# Altium integrated library Actel IGLOO nano.IntLib: 240 symbols (part 10 of 14)
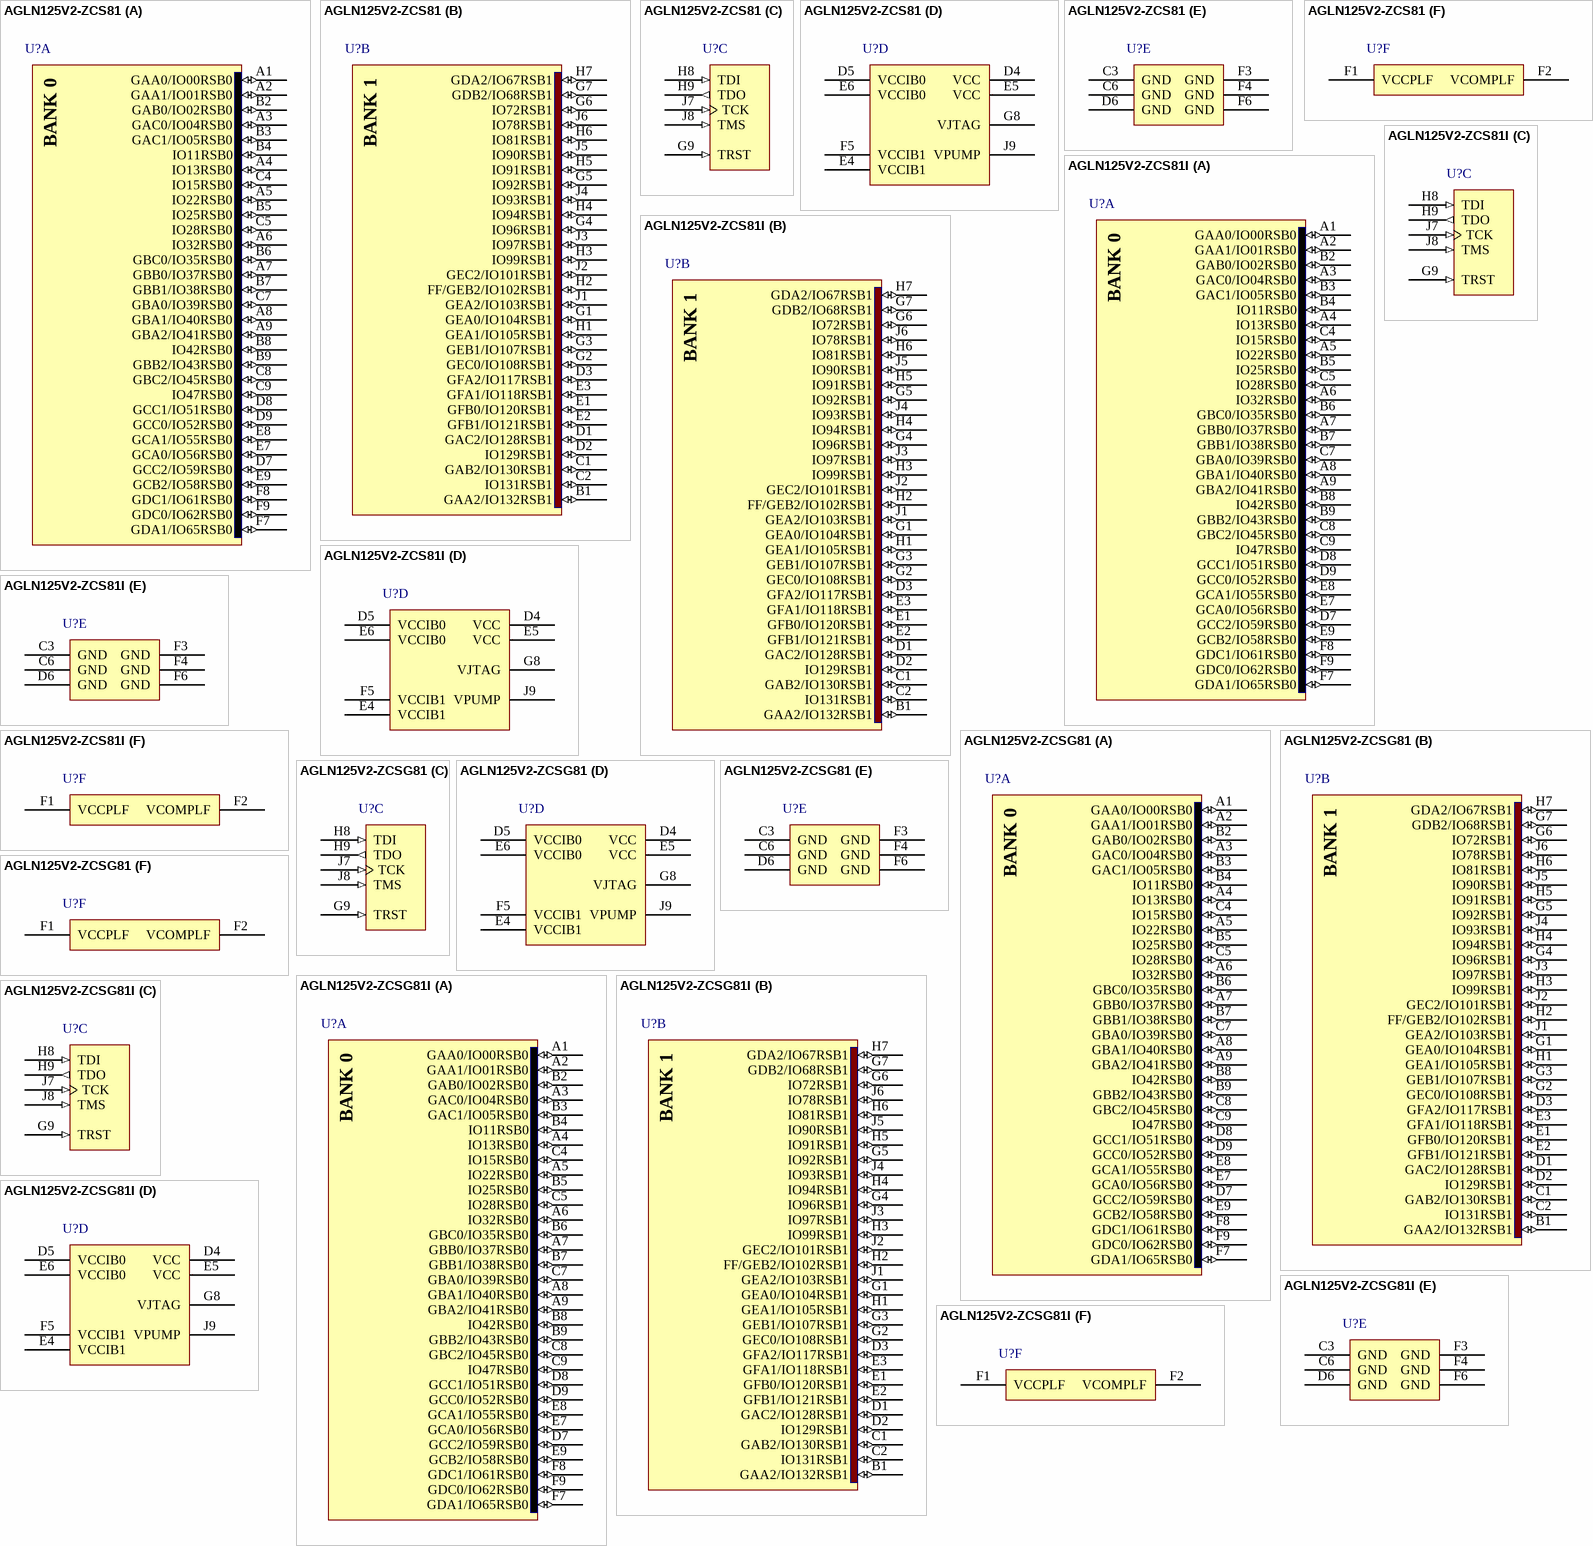
[diagram p72: symbols AGLN125V2-ZCS81 to AGLN125V2-ZCSG81I]

## AGLN125V2-ZCS81I
designator U?
IGLOO nano Low-Power Flash 1.2 to 1.5V FPGA with Flash*Freeze, 60 User IOs, 125K System Gates, 1Kbit Flash ROM, Z feature grade, 81-Pin CSP, Industrial Grade; Published: 26-Feb-2010; DatasheetVersion: v0.8, Jan-2010; PackageVersion: ver11.2, Nov-2009; PackageReference: CS81; Publisher: Altium Limited; PackageDescription: 81-Ball Chip Scale Ball Grid Array 0.5 mm Pitch (CS81); Code_JEDEC: MO-195-AB; ComponentLink1Description: IGLOO nano Datasheet; ComponentLink1URL: http://www.actel.com/documents/IGLOO_nano_DS.pdf; ComponentLink2Description: Package Mechanical Drawings; ComponentLink2URL: http://www.actel.com/documents/PckgMechDrwngs.pdf; ComponentLink3Description: IGLOO nano Documents; ComponentLink3URL: http://www.actel.com/products/igloonano/docs.aspx; ComponentLink4Description: Actel.com Home; ComponentLink4URL: http://www.actel.com/
footprint CS81 (BGA, 81-Leads, Body 5x5mm, Pitch 0.5mm)
signal-integrity model AGLN125-CS81 (IGLOO nano)
part A pins: A1 GAA0/IO00RSB0 (io), A2 GAA1/IO01RSB0 (io), A3 GAC0/IO04RSB0 (io), A4 IO13RSB0 (io), A5 IO22RSB0 (io), A6 IO32RSB0 (io), A7 GBB0/IO37RSB0 (io), A8 GBA1/IO40RSB0 (io), A9 GBA2/IO41RSB0 (io), B2 GAB0/IO02RSB0 (io), B3 GAC1/IO05RSB0 (io), B4 IO11RSB0 (io), B5 IO25RSB0 (io), B6 GBC0/IO35RSB0 (io), B7 GBB1/IO38RSB0 (io), B8 IO42RSB0 (io), B9 GBB2/IO43RSB0 (io), C4 IO15RSB0 (io), C5 IO28RSB0 (io), C7 GBA0/IO39RSB0 (io), C8 GBC2/IO45RSB0 (io), C9 IO47RSB0 (io), D7 GCC2/IO59RSB0 (io), D8 GCC1/IO51RSB0 (io), D9 GCC0/IO52RSB0 (io), E7 GCA0/IO56RSB0 (io), E8 GCA1/IO55RSB0 (io), E9 GCB2/IO58RSB0 (io), F7 GDA1/IO65RSB0 (io), F8 GDC1/IO61RSB0 (io), F9 GDC0/IO62RSB0 (io)
part B pins: B1 GAA2/IO132RSB1 (io), C1 GAB2/IO130RSB1 (io), C2 IO131RSB1 (io), D1 GAC2/IO128RSB1 (io), D2 IO129RSB1 (io), D3 GFA2/IO117RSB1 (io), E1 GFB0/IO120RSB1 (io), E2 GFB1/IO121RSB1 (io), E3 GFA1/IO118RSB1 (io), G1 GEA0/IO104RSB1 (io), G2 GEC0/IO108RSB1 (io), G3 GEB1/IO107RSB1 (io), G4 IO96RSB1 (io), G5 IO92RSB1 (io), G6 IO72RSB1 (io), G7 GDB2/IO68RSB1 (io), H1 GEA1/IO105RSB1 (io), H2 FF/GEB2/IO102RSB1 (io), H3 IO99RSB1 (io), H4 IO94RSB1 (io), H5 IO91RSB1 (io), H6 IO81RSB1 (io), H7 GDA2/IO67RSB1 (io), J1 GEA2/IO103RSB1 (io), J2 GEC2/IO101RSB1 (io), J3 IO97RSB1 (io), J4 IO93RSB1 (io), J5 IO90RSB1 (io), J6 IO78RSB1 (io)
part C pins: G9 TRST (in), H8 TDI (in), H9 TDO (out), J7 TCK (in), J8 TMS (in)
part D pins: D4 VCC (power), D5 VCCIB0 (power), E4 VCCIB1 (power), E5 VCC (power), E6 VCCIB0 (power), F5 VCCIB1 (power), G8 VJTAG (power), J9 VPUMP (power)
part E pins: C3 GND (power), C6 GND (power), D6 GND (power), F3 GND (power), F4 GND (power), F6 GND (power)
part F pins: F1 VCCPLF (power), F2 VCOMPLF (power)
part A text: BANK 0
part B text: BANK 1

## AGLN125V2-ZCSG81
designator U?
IGLOO nano Low-Power Flash 1.2 to 1.5V FPGA with Flash*Freeze, 60 User IOs, 125K System Gates, 1Kbit Flash ROM, Z feature grade, 81-Pin CSP, Commercial Grade, Pb-Free; Published: 26-Feb-2010; DatasheetVersion: v0.8, Jan-2010; PackageVersion: ver11.2, Nov-2009; PackageReference: CS81; Publisher: Altium Limited; PackageDescription: 81-Ball Chip Scale Ball Grid Array 0.5 mm Pitch (CS81); Code_JEDEC: MO-195-AB; ComponentLink1Description: IGLOO nano Datasheet; ComponentLink1URL: http://www.actel.com/documents/IGLOO_nano_DS.pdf; ComponentLink2Description: Package Mechanical Drawings; ComponentLink2URL: http://www.actel.com/documents/PckgMechDrwngs.pdf; ComponentLink3Description: IGLOO nano Documents; ComponentLink3URL: http://www.actel.com/products/igloonano/docs.aspx; ComponentLink4Description: Actel.com Home; ComponentLink4URL: http://www.actel.com/
footprint CS81 (BGA, 81-Leads, Body 5x5mm, Pitch 0.5mm)
signal-integrity model AGLN125-CS81 (IGLOO nano)
part A pins: A1 GAA0/IO00RSB0 (io), A2 GAA1/IO01RSB0 (io), A3 GAC0/IO04RSB0 (io), A4 IO13RSB0 (io), A5 IO22RSB0 (io), A6 IO32RSB0 (io), A7 GBB0/IO37RSB0 (io), A8 GBA1/IO40RSB0 (io), A9 GBA2/IO41RSB0 (io), B2 GAB0/IO02RSB0 (io), B3 GAC1/IO05RSB0 (io), B4 IO11RSB0 (io), B5 IO25RSB0 (io), B6 GBC0/IO35RSB0 (io), B7 GBB1/IO38RSB0 (io), B8 IO42RSB0 (io), B9 GBB2/IO43RSB0 (io), C4 IO15RSB0 (io), C5 IO28RSB0 (io), C7 GBA0/IO39RSB0 (io), C8 GBC2/IO45RSB0 (io), C9 IO47RSB0 (io), D7 GCC2/IO59RSB0 (io), D8 GCC1/IO51RSB0 (io), D9 GCC0/IO52RSB0 (io), E7 GCA0/IO56RSB0 (io), E8 GCA1/IO55RSB0 (io), E9 GCB2/IO58RSB0 (io), F7 GDA1/IO65RSB0 (io), F8 GDC1/IO61RSB0 (io), F9 GDC0/IO62RSB0 (io)
part B pins: B1 GAA2/IO132RSB1 (io), C1 GAB2/IO130RSB1 (io), C2 IO131RSB1 (io), D1 GAC2/IO128RSB1 (io), D2 IO129RSB1 (io), D3 GFA2/IO117RSB1 (io), E1 GFB0/IO120RSB1 (io), E2 GFB1/IO121RSB1 (io), E3 GFA1/IO118RSB1 (io), G1 GEA0/IO104RSB1 (io), G2 GEC0/IO108RSB1 (io), G3 GEB1/IO107RSB1 (io), G4 IO96RSB1 (io), G5 IO92RSB1 (io), G6 IO72RSB1 (io), G7 GDB2/IO68RSB1 (io), H1 GEA1/IO105RSB1 (io), H2 FF/GEB2/IO102RSB1 (io), H3 IO99RSB1 (io), H4 IO94RSB1 (io), H5 IO91RSB1 (io), H6 IO81RSB1 (io), H7 GDA2/IO67RSB1 (io), J1 GEA2/IO103RSB1 (io), J2 GEC2/IO101RSB1 (io), J3 IO97RSB1 (io), J4 IO93RSB1 (io), J5 IO90RSB1 (io), J6 IO78RSB1 (io)
part C pins: G9 TRST (in), H8 TDI (in), H9 TDO (out), J7 TCK (in), J8 TMS (in)
part D pins: D4 VCC (power), D5 VCCIB0 (power), E4 VCCIB1 (power), E5 VCC (power), E6 VCCIB0 (power), F5 VCCIB1 (power), G8 VJTAG (power), J9 VPUMP (power)
part E pins: C3 GND (power), C6 GND (power), D6 GND (power), F3 GND (power), F4 GND (power), F6 GND (power)
part F pins: F1 VCCPLF (power), F2 VCOMPLF (power)
part A text: BANK 0
part B text: BANK 1

## AGLN125V2-ZCSG81I
designator U?
IGLOO nano Low-Power Flash 1.2 to 1.5V FPGA with Flash*Freeze, 60 User IOs, 125K System Gates, 1Kbit Flash ROM, Z feature grade, 81-Pin CSP, Industrial Grade, Pb-Free; Published: 26-Feb-2010; DatasheetVersion: v0.8, Jan-2010; PackageVersion: ver11.2, Nov-2009; PackageReference: CS81; Publisher: Altium Limited; PackageDescription: 81-Ball Chip Scale Ball Grid Array 0.5 mm Pitch (CS81); Code_JEDEC: MO-195-AB; ComponentLink1Description: IGLOO nano Datasheet; ComponentLink1URL: http://www.actel.com/documents/IGLOO_nano_DS.pdf; ComponentLink2Description: Package Mechanical Drawings; ComponentLink2URL: http://www.actel.com/documents/PckgMechDrwngs.pdf; ComponentLink3Description: IGLOO nano Documents; ComponentLink3URL: http://www.actel.com/products/igloonano/docs.aspx; ComponentLink4Description: Actel.com Home; ComponentLink4URL: http://www.actel.com/
footprint CS81 (BGA, 81-Leads, Body 5x5mm, Pitch 0.5mm)
signal-integrity model AGLN125-CS81 (IGLOO nano)
part A pins: A1 GAA0/IO00RSB0 (io), A2 GAA1/IO01RSB0 (io), A3 GAC0/IO04RSB0 (io), A4 IO13RSB0 (io), A5 IO22RSB0 (io), A6 IO32RSB0 (io), A7 GBB0/IO37RSB0 (io), A8 GBA1/IO40RSB0 (io), A9 GBA2/IO41RSB0 (io), B2 GAB0/IO02RSB0 (io), B3 GAC1/IO05RSB0 (io), B4 IO11RSB0 (io), B5 IO25RSB0 (io), B6 GBC0/IO35RSB0 (io), B7 GBB1/IO38RSB0 (io), B8 IO42RSB0 (io), B9 GBB2/IO43RSB0 (io), C4 IO15RSB0 (io), C5 IO28RSB0 (io), C7 GBA0/IO39RSB0 (io), C8 GBC2/IO45RSB0 (io), C9 IO47RSB0 (io), D7 GCC2/IO59RSB0 (io), D8 GCC1/IO51RSB0 (io), D9 GCC0/IO52RSB0 (io), E7 GCA0/IO56RSB0 (io), E8 GCA1/IO55RSB0 (io), E9 GCB2/IO58RSB0 (io), F7 GDA1/IO65RSB0 (io), F8 GDC1/IO61RSB0 (io), F9 GDC0/IO62RSB0 (io)
part B pins: B1 GAA2/IO132RSB1 (io), C1 GAB2/IO130RSB1 (io), C2 IO131RSB1 (io), D1 GAC2/IO128RSB1 (io), D2 IO129RSB1 (io), D3 GFA2/IO117RSB1 (io), E1 GFB0/IO120RSB1 (io), E2 GFB1/IO121RSB1 (io), E3 GFA1/IO118RSB1 (io), G1 GEA0/IO104RSB1 (io), G2 GEC0/IO108RSB1 (io), G3 GEB1/IO107RSB1 (io), G4 IO96RSB1 (io), G5 IO92RSB1 (io), G6 IO72RSB1 (io), G7 GDB2/IO68RSB1 (io), H1 GEA1/IO105RSB1 (io), H2 FF/GEB2/IO102RSB1 (io), H3 IO99RSB1 (io), H4 IO94RSB1 (io), H5 IO91RSB1 (io), H6 IO81RSB1 (io), H7 GDA2/IO67RSB1 (io), J1 GEA2/IO103RSB1 (io), J2 GEC2/IO101RSB1 (io), J3 IO97RSB1 (io), J4 IO93RSB1 (io), J5 IO90RSB1 (io), J6 IO78RSB1 (io)
part C pins: G9 TRST (in), H8 TDI (in), H9 TDO (out), J7 TCK (in), J8 TMS (in)
part D pins: D4 VCC (power), D5 VCCIB0 (power), E4 VCCIB1 (power), E5 VCC (power), E6 VCCIB0 (power), F5 VCCIB1 (power), G8 VJTAG (power), J9 VPUMP (power)
part E pins: C3 GND (power), C6 GND (power), D6 GND (power), F3 GND (power), F4 GND (power), F6 GND (power)
part F pins: F1 VCCPLF (power), F2 VCOMPLF (power)
part A text: BANK 0
part B text: BANK 1

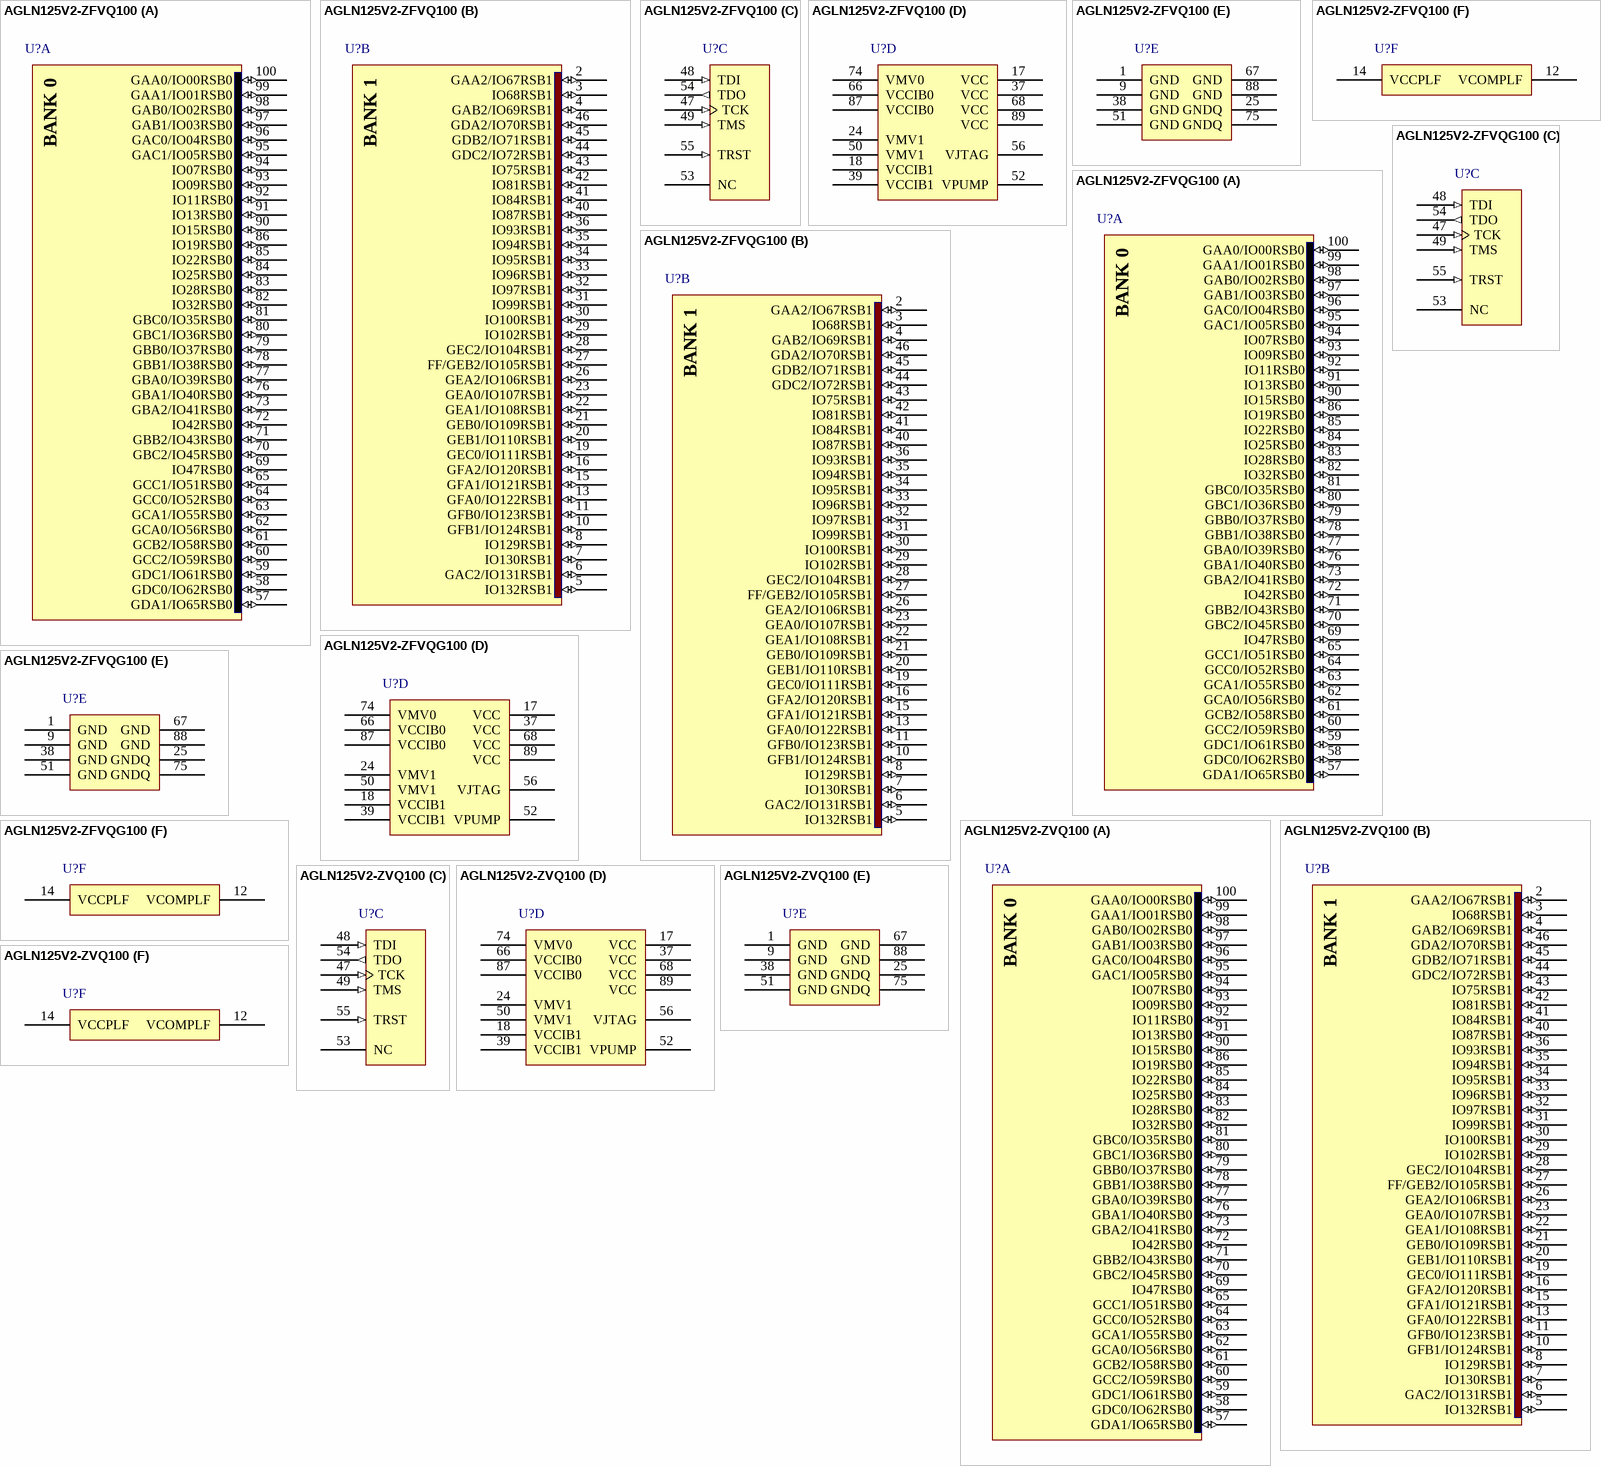
[diagram p42: symbols AGLN125V2-ZFVQ100 to AGLN125V2-ZVQ100]

## AGLN125V2-ZFVQ100
designator U?
IGLOO nano Low-Power Flash 1.2 to 1.5V FPGA with Flash*Freeze, 71 User IOs, 125K System Gates, 1Kbit Flash ROM, Z feature grade, 100-Pin TQFP, Commercial Grade; ComponentAvailability: F speed grade removed in ver0.7, Apr-2009 datasheet.; Published: 29-May-2009; DatasheetVersion: v0.6, Feb-2009; PackageVersion: ver11.2, Nov-2009; PackageReference: VQ100; Publisher: Altium Limited; PackageDescription: 100-Pin Plastic Quad Flat Pack (VQ100); Code_JEDEC: MS-026-AED; ComponentLink1Description: IGLOO nano Datasheet; ComponentLink1URL: http://www.actel.com/documents/IGLOO_nano_DS.pdf; ComponentLink2Description: Package Mechanical Drawings; ComponentLink2URL: http://www.actel.com/documents/PckgMechDrwngs.pdf; ComponentLink3Description: IGLOO nano Documents; ComponentLink3URL: http://www.actel.com/products/igloonano/docs.aspx; ComponentLink4Description: Actel.com Home; ComponentLink4URL: http://www.actel.com/
footprint VQ100_N (Thin QFP, 100-Leads, Body 14x14mm, Pitch 0.5mm, IPC Medium Density)
footprint VQ100_L (Thin QFP, 100-Leads, Body 14x14mm, Pitch 0.5mm, IPC High Density)
footprint VQ100_M (Thin QFP, 100-Leads, Body 14x14mm, Pitch 0.5mm, IPC Low Density)
signal-integrity model AGLN125-VQ100 (IGLOO nano)
part A pins: 57 GDA1/IO65RSB0 (io), 58 GDC0/IO62RSB0 (io), 59 GDC1/IO61RSB0 (io), 60 GCC2/IO59RSB0 (io), 61 GCB2/IO58RSB0 (io), 62 GCA0/IO56RSB0 (io), 63 GCA1/IO55RSB0 (io), 64 GCC0/IO52RSB0 (io), 65 GCC1/IO51RSB0 (io), 69 IO47RSB0 (io), 70 GBC2/IO45RSB0 (io), 71 GBB2/IO43RSB0 (io), 72 IO42RSB0 (io), 73 GBA2/IO41RSB0 (io), 76 GBA1/IO40RSB0 (io), 77 GBA0/IO39RSB0 (io), 78 GBB1/IO38RSB0 (io), 79 GBB0/IO37RSB0 (io), 80 GBC1/IO36RSB0 (io), 81 GBC0/IO35RSB0 (io), 82 IO32RSB0 (io), 83 IO28RSB0 (io), 84 IO25RSB0 (io), 85 IO22RSB0 (io), 86 IO19RSB0 (io), 90 IO15RSB0 (io), 91 IO13RSB0 (io), 92 IO11RSB0 (io), 93 IO09RSB0 (io), 94 IO07RSB0 (io), 95 GAC1/IO05RSB0 (io), 96 GAC0/IO04RSB0 (io), 97 GAB1/IO03RSB0 (io), 98 GAB0/IO02RSB0 (io), 99 GAA1/IO01RSB0 (io), 100 GAA0/IO00RSB0 (io)
part B pins: 2 GAA2/IO67RSB1 (io), 3 IO68RSB1 (io), 4 GAB2/IO69RSB1 (io), 5 IO132RSB1 (io), 6 GAC2/IO131RSB1 (io), 7 IO130RSB1 (io), 8 IO129RSB1 (io), 10 GFB1/IO124RSB1 (io), 11 GFB0/IO123RSB1 (io), 13 GFA0/IO122RSB1 (io), 15 GFA1/IO121RSB1 (io), 16 GFA2/IO120RSB1 (io), 19 GEC0/IO111RSB1 (io), 20 GEB1/IO110RSB1 (io), 21 GEB0/IO109RSB1 (io), 22 GEA1/IO108RSB1 (io), 23 GEA0/IO107RSB1 (io), 26 GEA2/IO106RSB1 (io), 27 FF/GEB2/IO105RSB1 (io), 28 GEC2/IO104RSB1 (io), 29 IO102RSB1 (io), 30 IO100RSB1 (io), 31 IO99RSB1 (io), 32 IO97RSB1 (io), 33 IO96RSB1 (io), 34 IO95RSB1 (io), 35 IO94RSB1 (io), 36 IO93RSB1 (io), 40 IO87RSB1 (io), 41 IO84RSB1 (io), 42 IO81RSB1 (io), 43 IO75RSB1 (io), 44 GDC2/IO72RSB1 (io), 45 GDB2/IO71RSB1 (io), 46 GDA2/IO70RSB1 (io)
part C pins: 47 TCK (in), 48 TDI (in), 49 TMS (in), 53 NC, 54 TDO (out), 55 TRST (in)
part D pins: 17 VCC (power), 18 VCCIB1 (power), 24 VMV1 (power), 37 VCC (power), 39 VCCIB1 (power), 50 VMV1 (power), 52 VPUMP (power), 56 VJTAG (power), 66 VCCIB0 (power), 68 VCC (power), 74 VMV0 (power), 87 VCCIB0 (power), 89 VCC (power)
part E pins: 1 GND (power), 9 GND (power), 25 GNDQ (power), 38 GND (power), 51 GND (power), 67 GND (power), 75 GNDQ (power), 88 GND (power)
part F pins: 12 VCOMPLF (power), 14 VCCPLF (power)
part A text: BANK 0
part B text: BANK 1

## AGLN125V2-ZFVQG100
designator U?
IGLOO nano Low-Power Flash 1.2 to 1.5V FPGA with Flash*Freeze, 71 User IOs, 125K System Gates, 1Kbit Flash ROM, Z feature grade, 100-Pin TQFP, Commercial Grade, Pb-Free; ComponentAvailability: F speed grade removed in ver0.7, Apr-2009 datasheet.; Published: 29-May-2009; DatasheetVersion: v0.6, Feb-2009; PackageVersion: ver11.2, Nov-2009; PackageReference: VQ100; Publisher: Altium Limited; PackageDescription: 100-Pin Plastic Quad Flat Pack (VQ100); Code_JEDEC: MS-026-AED; ComponentLink1Description: IGLOO nano Datasheet; ComponentLink1URL: http://www.actel.com/documents/IGLOO_nano_DS.pdf; ComponentLink2Description: Package Mechanical Drawings; ComponentLink2URL: http://www.actel.com/documents/PckgMechDrwngs.pdf; ComponentLink3Description: IGLOO nano Documents; ComponentLink3URL: http://www.actel.com/products/igloonano/docs.aspx; ComponentLink4Description: Actel.com Home; ComponentLink4URL: http://www.actel.com/
footprint VQ100_N (Thin QFP, 100-Leads, Body 14x14mm, Pitch 0.5mm, IPC Medium Density)
footprint VQ100_L (Thin QFP, 100-Leads, Body 14x14mm, Pitch 0.5mm, IPC High Density)
footprint VQ100_M (Thin QFP, 100-Leads, Body 14x14mm, Pitch 0.5mm, IPC Low Density)
signal-integrity model AGLN125-VQ100 (IGLOO nano)
part A pins: 57 GDA1/IO65RSB0 (io), 58 GDC0/IO62RSB0 (io), 59 GDC1/IO61RSB0 (io), 60 GCC2/IO59RSB0 (io), 61 GCB2/IO58RSB0 (io), 62 GCA0/IO56RSB0 (io), 63 GCA1/IO55RSB0 (io), 64 GCC0/IO52RSB0 (io), 65 GCC1/IO51RSB0 (io), 69 IO47RSB0 (io), 70 GBC2/IO45RSB0 (io), 71 GBB2/IO43RSB0 (io), 72 IO42RSB0 (io), 73 GBA2/IO41RSB0 (io), 76 GBA1/IO40RSB0 (io), 77 GBA0/IO39RSB0 (io), 78 GBB1/IO38RSB0 (io), 79 GBB0/IO37RSB0 (io), 80 GBC1/IO36RSB0 (io), 81 GBC0/IO35RSB0 (io), 82 IO32RSB0 (io), 83 IO28RSB0 (io), 84 IO25RSB0 (io), 85 IO22RSB0 (io), 86 IO19RSB0 (io), 90 IO15RSB0 (io), 91 IO13RSB0 (io), 92 IO11RSB0 (io), 93 IO09RSB0 (io), 94 IO07RSB0 (io), 95 GAC1/IO05RSB0 (io), 96 GAC0/IO04RSB0 (io), 97 GAB1/IO03RSB0 (io), 98 GAB0/IO02RSB0 (io), 99 GAA1/IO01RSB0 (io), 100 GAA0/IO00RSB0 (io)
part B pins: 2 GAA2/IO67RSB1 (io), 3 IO68RSB1 (io), 4 GAB2/IO69RSB1 (io), 5 IO132RSB1 (io), 6 GAC2/IO131RSB1 (io), 7 IO130RSB1 (io), 8 IO129RSB1 (io), 10 GFB1/IO124RSB1 (io), 11 GFB0/IO123RSB1 (io), 13 GFA0/IO122RSB1 (io), 15 GFA1/IO121RSB1 (io), 16 GFA2/IO120RSB1 (io), 19 GEC0/IO111RSB1 (io), 20 GEB1/IO110RSB1 (io), 21 GEB0/IO109RSB1 (io), 22 GEA1/IO108RSB1 (io), 23 GEA0/IO107RSB1 (io), 26 GEA2/IO106RSB1 (io), 27 FF/GEB2/IO105RSB1 (io), 28 GEC2/IO104RSB1 (io), 29 IO102RSB1 (io), 30 IO100RSB1 (io), 31 IO99RSB1 (io), 32 IO97RSB1 (io), 33 IO96RSB1 (io), 34 IO95RSB1 (io), 35 IO94RSB1 (io), 36 IO93RSB1 (io), 40 IO87RSB1 (io), 41 IO84RSB1 (io), 42 IO81RSB1 (io), 43 IO75RSB1 (io), 44 GDC2/IO72RSB1 (io), 45 GDB2/IO71RSB1 (io), 46 GDA2/IO70RSB1 (io)
part C pins: 47 TCK (in), 48 TDI (in), 49 TMS (in), 53 NC, 54 TDO (out), 55 TRST (in)
part D pins: 17 VCC (power), 18 VCCIB1 (power), 24 VMV1 (power), 37 VCC (power), 39 VCCIB1 (power), 50 VMV1 (power), 52 VPUMP (power), 56 VJTAG (power), 66 VCCIB0 (power), 68 VCC (power), 74 VMV0 (power), 87 VCCIB0 (power), 89 VCC (power)
part E pins: 1 GND (power), 9 GND (power), 25 GNDQ (power), 38 GND (power), 51 GND (power), 67 GND (power), 75 GNDQ (power), 88 GND (power)
part F pins: 12 VCOMPLF (power), 14 VCCPLF (power)
part A text: BANK 0
part B text: BANK 1

## AGLN125V2-ZVQ100
designator U?
IGLOO nano Low-Power Flash 1.2 to 1.5V FPGA with Flash*Freeze, 71 User IOs, 125K System Gates, 1Kbit Flash ROM, Z feature grade, 100-Pin TQFP, Commercial Grade; Published: 29-May-2009; LatestRevisionDate: 26-Feb-2010; LatestRevisionNote: Updated to datasheet version 0.8 Jan-2010.; DatasheetVersion: v0.8, Jan-2010; PackageVersion: ver11.2, Nov-2009; PackageReference: VQ100; Publisher: Altium Limited; PackageDescription: 100-Pin Plastic Quad Flat Pack (VQ100); Code_JEDEC: MS-026-AED; ComponentLink1Description: IGLOO nano Datasheet; ComponentLink1URL: http://www.actel.com/documents/IGLOO_nano_DS.pdf; ComponentLink2Description: Package Mechanical Drawings; ComponentLink2URL: http://www.actel.com/documents/PckgMechDrwngs.pdf; ComponentLink3Description: IGLOO nano Documents; ComponentLink3URL: http://www.actel.com/products/igloonano/docs.aspx; ComponentLink4Description: Actel.com Home; ComponentLink4URL: http://www.actel.com/
footprint VQ100_N (Thin QFP, 100-Leads, Body 14x14mm, Pitch 0.5mm, IPC Medium Density)
footprint VQ100_L (Thin QFP, 100-Leads, Body 14x14mm, Pitch 0.5mm, IPC High Density)
footprint VQ100_M (Thin QFP, 100-Leads, Body 14x14mm, Pitch 0.5mm, IPC Low Density)
signal-integrity model AGLN125-VQ100 (IGLOO nano)
part A pins: 57 GDA1/IO65RSB0 (io), 58 GDC0/IO62RSB0 (io), 59 GDC1/IO61RSB0 (io), 60 GCC2/IO59RSB0 (io), 61 GCB2/IO58RSB0 (io), 62 GCA0/IO56RSB0 (io), 63 GCA1/IO55RSB0 (io), 64 GCC0/IO52RSB0 (io), 65 GCC1/IO51RSB0 (io), 69 IO47RSB0 (io), 70 GBC2/IO45RSB0 (io), 71 GBB2/IO43RSB0 (io), 72 IO42RSB0 (io), 73 GBA2/IO41RSB0 (io), 76 GBA1/IO40RSB0 (io), 77 GBA0/IO39RSB0 (io), 78 GBB1/IO38RSB0 (io), 79 GBB0/IO37RSB0 (io), 80 GBC1/IO36RSB0 (io), 81 GBC0/IO35RSB0 (io), 82 IO32RSB0 (io), 83 IO28RSB0 (io), 84 IO25RSB0 (io), 85 IO22RSB0 (io), 86 IO19RSB0 (io), 90 IO15RSB0 (io), 91 IO13RSB0 (io), 92 IO11RSB0 (io), 93 IO09RSB0 (io), 94 IO07RSB0 (io), 95 GAC1/IO05RSB0 (io), 96 GAC0/IO04RSB0 (io), 97 GAB1/IO03RSB0 (io), 98 GAB0/IO02RSB0 (io), 99 GAA1/IO01RSB0 (io), 100 GAA0/IO00RSB0 (io)
part B pins: 2 GAA2/IO67RSB1 (io), 3 IO68RSB1 (io), 4 GAB2/IO69RSB1 (io), 5 IO132RSB1 (io), 6 GAC2/IO131RSB1 (io), 7 IO130RSB1 (io), 8 IO129RSB1 (io), 10 GFB1/IO124RSB1 (io), 11 GFB0/IO123RSB1 (io), 13 GFA0/IO122RSB1 (io), 15 GFA1/IO121RSB1 (io), 16 GFA2/IO120RSB1 (io), 19 GEC0/IO111RSB1 (io), 20 GEB1/IO110RSB1 (io), 21 GEB0/IO109RSB1 (io), 22 GEA1/IO108RSB1 (io), 23 GEA0/IO107RSB1 (io), 26 GEA2/IO106RSB1 (io), 27 FF/GEB2/IO105RSB1 (io), 28 GEC2/IO104RSB1 (io), 29 IO102RSB1 (io), 30 IO100RSB1 (io), 31 IO99RSB1 (io), 32 IO97RSB1 (io), 33 IO96RSB1 (io), 34 IO95RSB1 (io), 35 IO94RSB1 (io), 36 IO93RSB1 (io), 40 IO87RSB1 (io), 41 IO84RSB1 (io), 42 IO81RSB1 (io), 43 IO75RSB1 (io), 44 GDC2/IO72RSB1 (io), 45 GDB2/IO71RSB1 (io), 46 GDA2/IO70RSB1 (io)
part C pins: 47 TCK (in), 48 TDI (in), 49 TMS (in), 53 NC, 54 TDO (out), 55 TRST (in)
part D pins: 17 VCC (power), 18 VCCIB1 (power), 24 VMV1 (power), 37 VCC (power), 39 VCCIB1 (power), 50 VMV1 (power), 52 VPUMP (power), 56 VJTAG (power), 66 VCCIB0 (power), 68 VCC (power), 74 VMV0 (power), 87 VCCIB0 (power), 89 VCC (power)
part E pins: 1 GND (power), 9 GND (power), 25 GNDQ (power), 38 GND (power), 51 GND (power), 67 GND (power), 75 GNDQ (power), 88 GND (power)
part F pins: 12 VCOMPLF (power), 14 VCCPLF (power)
part A text: BANK 0
part B text: BANK 1

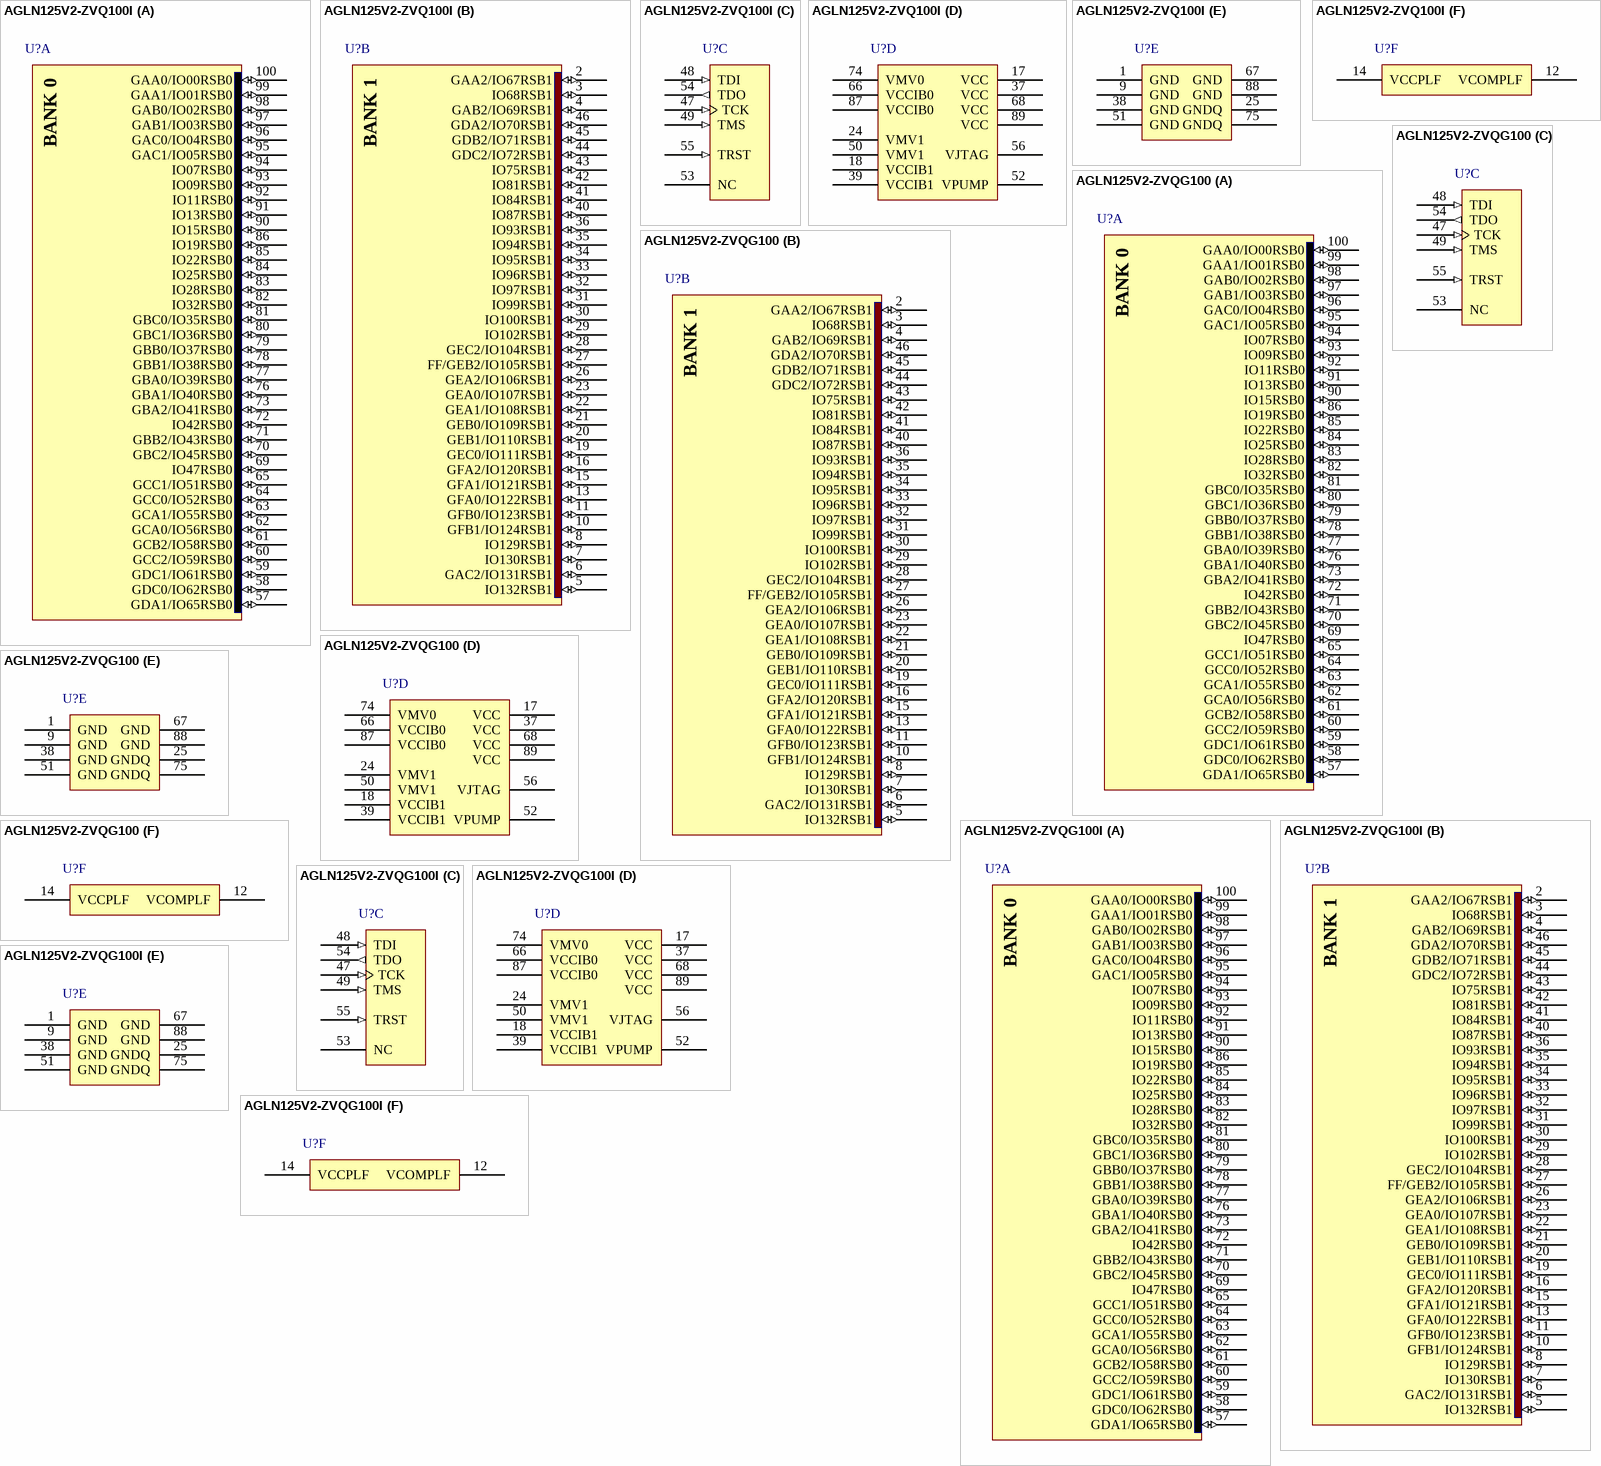
[diagram p43: symbols AGLN125V2-ZVQ100I to AGLN125V2-ZVQG100I]

## AGLN125V2-ZVQ100I
designator U?
IGLOO nano Low-Power Flash 1.2 to 1.5V FPGA with Flash*Freeze, 71 User IOs, 125K System Gates, 1Kbit Flash ROM, Z feature grade, 100-Pin TQFP, Industrial Grade; Published: 29-May-2009; LatestRevisionDate: 26-Feb-2010; LatestRevisionNote: Updated to datasheet version 0.8 Jan-2010.; DatasheetVersion: v0.8, Jan-2010; PackageVersion: ver11.2, Nov-2009; PackageReference: VQ100; Publisher: Altium Limited; PackageDescription: 100-Pin Plastic Quad Flat Pack (VQ100); Code_JEDEC: MS-026-AED; ComponentLink1Description: IGLOO nano Datasheet; ComponentLink1URL: http://www.actel.com/documents/IGLOO_nano_DS.pdf; ComponentLink2Description: Package Mechanical Drawings; ComponentLink2URL: http://www.actel.com/documents/PckgMechDrwngs.pdf; ComponentLink3Description: IGLOO nano Documents; ComponentLink3URL: http://www.actel.com/products/igloonano/docs.aspx; ComponentLink4Description: Actel.com Home; ComponentLink4URL: http://www.actel.com/
footprint VQ100_N (Thin QFP, 100-Leads, Body 14x14mm, Pitch 0.5mm, IPC Medium Density)
footprint VQ100_L (Thin QFP, 100-Leads, Body 14x14mm, Pitch 0.5mm, IPC High Density)
footprint VQ100_M (Thin QFP, 100-Leads, Body 14x14mm, Pitch 0.5mm, IPC Low Density)
signal-integrity model AGLN125-VQ100 (IGLOO nano)
part A pins: 57 GDA1/IO65RSB0 (io), 58 GDC0/IO62RSB0 (io), 59 GDC1/IO61RSB0 (io), 60 GCC2/IO59RSB0 (io), 61 GCB2/IO58RSB0 (io), 62 GCA0/IO56RSB0 (io), 63 GCA1/IO55RSB0 (io), 64 GCC0/IO52RSB0 (io), 65 GCC1/IO51RSB0 (io), 69 IO47RSB0 (io), 70 GBC2/IO45RSB0 (io), 71 GBB2/IO43RSB0 (io), 72 IO42RSB0 (io), 73 GBA2/IO41RSB0 (io), 76 GBA1/IO40RSB0 (io), 77 GBA0/IO39RSB0 (io), 78 GBB1/IO38RSB0 (io), 79 GBB0/IO37RSB0 (io), 80 GBC1/IO36RSB0 (io), 81 GBC0/IO35RSB0 (io), 82 IO32RSB0 (io), 83 IO28RSB0 (io), 84 IO25RSB0 (io), 85 IO22RSB0 (io), 86 IO19RSB0 (io), 90 IO15RSB0 (io), 91 IO13RSB0 (io), 92 IO11RSB0 (io), 93 IO09RSB0 (io), 94 IO07RSB0 (io), 95 GAC1/IO05RSB0 (io), 96 GAC0/IO04RSB0 (io), 97 GAB1/IO03RSB0 (io), 98 GAB0/IO02RSB0 (io), 99 GAA1/IO01RSB0 (io), 100 GAA0/IO00RSB0 (io)
part B pins: 2 GAA2/IO67RSB1 (io), 3 IO68RSB1 (io), 4 GAB2/IO69RSB1 (io), 5 IO132RSB1 (io), 6 GAC2/IO131RSB1 (io), 7 IO130RSB1 (io), 8 IO129RSB1 (io), 10 GFB1/IO124RSB1 (io), 11 GFB0/IO123RSB1 (io), 13 GFA0/IO122RSB1 (io), 15 GFA1/IO121RSB1 (io), 16 GFA2/IO120RSB1 (io), 19 GEC0/IO111RSB1 (io), 20 GEB1/IO110RSB1 (io), 21 GEB0/IO109RSB1 (io), 22 GEA1/IO108RSB1 (io), 23 GEA0/IO107RSB1 (io), 26 GEA2/IO106RSB1 (io), 27 FF/GEB2/IO105RSB1 (io), 28 GEC2/IO104RSB1 (io), 29 IO102RSB1 (io), 30 IO100RSB1 (io), 31 IO99RSB1 (io), 32 IO97RSB1 (io), 33 IO96RSB1 (io), 34 IO95RSB1 (io), 35 IO94RSB1 (io), 36 IO93RSB1 (io), 40 IO87RSB1 (io), 41 IO84RSB1 (io), 42 IO81RSB1 (io), 43 IO75RSB1 (io), 44 GDC2/IO72RSB1 (io), 45 GDB2/IO71RSB1 (io), 46 GDA2/IO70RSB1 (io)
part C pins: 47 TCK (in), 48 TDI (in), 49 TMS (in), 53 NC, 54 TDO (out), 55 TRST (in)
part D pins: 17 VCC (power), 18 VCCIB1 (power), 24 VMV1 (power), 37 VCC (power), 39 VCCIB1 (power), 50 VMV1 (power), 52 VPUMP (power), 56 VJTAG (power), 66 VCCIB0 (power), 68 VCC (power), 74 VMV0 (power), 87 VCCIB0 (power), 89 VCC (power)
part E pins: 1 GND (power), 9 GND (power), 25 GNDQ (power), 38 GND (power), 51 GND (power), 67 GND (power), 75 GNDQ (power), 88 GND (power)
part F pins: 12 VCOMPLF (power), 14 VCCPLF (power)
part A text: BANK 0
part B text: BANK 1

## AGLN125V2-ZVQG100
designator U?
IGLOO nano Low-Power Flash 1.2 to 1.5V FPGA with Flash*Freeze, 71 User IOs, 125K System Gates, 1Kbit Flash ROM, Z feature grade, 100-Pin TQFP, Commercial Grade, Pb-Free; Published: 29-May-2009; LatestRevisionDate: 26-Feb-2010; LatestRevisionNote: Updated to datasheet version 0.8 Jan-2010.; DatasheetVersion: v0.8, Jan-2010; PackageVersion: ver11.2, Nov-2009; PackageReference: VQ100; Publisher: Altium Limited; PackageDescription: 100-Pin Plastic Quad Flat Pack (VQ100); Code_JEDEC: MS-026-AED; ComponentLink1Description: IGLOO nano Datasheet; ComponentLink1URL: http://www.actel.com/documents/IGLOO_nano_DS.pdf; ComponentLink2Description: Package Mechanical Drawings; ComponentLink2URL: http://www.actel.com/documents/PckgMechDrwngs.pdf; ComponentLink3Description: IGLOO nano Documents; ComponentLink3URL: http://www.actel.com/products/igloonano/docs.aspx; ComponentLink4Description: Actel.com Home; ComponentLink4URL: http://www.actel.com/
footprint VQ100_N (Thin QFP, 100-Leads, Body 14x14mm, Pitch 0.5mm, IPC Medium Density)
footprint VQ100_L (Thin QFP, 100-Leads, Body 14x14mm, Pitch 0.5mm, IPC High Density)
footprint VQ100_M (Thin QFP, 100-Leads, Body 14x14mm, Pitch 0.5mm, IPC Low Density)
signal-integrity model AGLN125-VQ100 (IGLOO nano)
part A pins: 57 GDA1/IO65RSB0 (io), 58 GDC0/IO62RSB0 (io), 59 GDC1/IO61RSB0 (io), 60 GCC2/IO59RSB0 (io), 61 GCB2/IO58RSB0 (io), 62 GCA0/IO56RSB0 (io), 63 GCA1/IO55RSB0 (io), 64 GCC0/IO52RSB0 (io), 65 GCC1/IO51RSB0 (io), 69 IO47RSB0 (io), 70 GBC2/IO45RSB0 (io), 71 GBB2/IO43RSB0 (io), 72 IO42RSB0 (io), 73 GBA2/IO41RSB0 (io), 76 GBA1/IO40RSB0 (io), 77 GBA0/IO39RSB0 (io), 78 GBB1/IO38RSB0 (io), 79 GBB0/IO37RSB0 (io), 80 GBC1/IO36RSB0 (io), 81 GBC0/IO35RSB0 (io), 82 IO32RSB0 (io), 83 IO28RSB0 (io), 84 IO25RSB0 (io), 85 IO22RSB0 (io), 86 IO19RSB0 (io), 90 IO15RSB0 (io), 91 IO13RSB0 (io), 92 IO11RSB0 (io), 93 IO09RSB0 (io), 94 IO07RSB0 (io), 95 GAC1/IO05RSB0 (io), 96 GAC0/IO04RSB0 (io), 97 GAB1/IO03RSB0 (io), 98 GAB0/IO02RSB0 (io), 99 GAA1/IO01RSB0 (io), 100 GAA0/IO00RSB0 (io)
part B pins: 2 GAA2/IO67RSB1 (io), 3 IO68RSB1 (io), 4 GAB2/IO69RSB1 (io), 5 IO132RSB1 (io), 6 GAC2/IO131RSB1 (io), 7 IO130RSB1 (io), 8 IO129RSB1 (io), 10 GFB1/IO124RSB1 (io), 11 GFB0/IO123RSB1 (io), 13 GFA0/IO122RSB1 (io), 15 GFA1/IO121RSB1 (io), 16 GFA2/IO120RSB1 (io), 19 GEC0/IO111RSB1 (io), 20 GEB1/IO110RSB1 (io), 21 GEB0/IO109RSB1 (io), 22 GEA1/IO108RSB1 (io), 23 GEA0/IO107RSB1 (io), 26 GEA2/IO106RSB1 (io), 27 FF/GEB2/IO105RSB1 (io), 28 GEC2/IO104RSB1 (io), 29 IO102RSB1 (io), 30 IO100RSB1 (io), 31 IO99RSB1 (io), 32 IO97RSB1 (io), 33 IO96RSB1 (io), 34 IO95RSB1 (io), 35 IO94RSB1 (io), 36 IO93RSB1 (io), 40 IO87RSB1 (io), 41 IO84RSB1 (io), 42 IO81RSB1 (io), 43 IO75RSB1 (io), 44 GDC2/IO72RSB1 (io), 45 GDB2/IO71RSB1 (io), 46 GDA2/IO70RSB1 (io)
part C pins: 47 TCK (in), 48 TDI (in), 49 TMS (in), 53 NC, 54 TDO (out), 55 TRST (in)
part D pins: 17 VCC (power), 18 VCCIB1 (power), 24 VMV1 (power), 37 VCC (power), 39 VCCIB1 (power), 50 VMV1 (power), 52 VPUMP (power), 56 VJTAG (power), 66 VCCIB0 (power), 68 VCC (power), 74 VMV0 (power), 87 VCCIB0 (power), 89 VCC (power)
part E pins: 1 GND (power), 9 GND (power), 25 GNDQ (power), 38 GND (power), 51 GND (power), 67 GND (power), 75 GNDQ (power), 88 GND (power)
part F pins: 12 VCOMPLF (power), 14 VCCPLF (power)
part A text: BANK 0
part B text: BANK 1

## AGLN125V2-ZVQG100I
designator U?
IGLOO nano Low-Power Flash 1.2 to 1.5V FPGA with Flash*Freeze, 71 User IOs, 125K System Gates, 1Kbit Flash ROM, Z feature grade, 100-Pin TQFP, Industrial Grade, Pb-Free; Published: 29-May-2009; LatestRevisionDate: 26-Feb-2010; LatestRevisionNote: Updated to datasheet version 0.8 Jan-2010.; DatasheetVersion: v0.8, Jan-2010; PackageVersion: ver11.2, Nov-2009; PackageReference: VQ100; Publisher: Altium Limited; PackageDescription: 100-Pin Plastic Quad Flat Pack (VQ100); Code_JEDEC: MS-026-AED; ComponentLink1Description: IGLOO nano Datasheet; ComponentLink1URL: http://www.actel.com/documents/IGLOO_nano_DS.pdf; ComponentLink2Description: Package Mechanical Drawings; ComponentLink2URL: http://www.actel.com/documents/PckgMechDrwngs.pdf; ComponentLink3Description: IGLOO nano Documents; ComponentLink3URL: http://www.actel.com/products/igloonano/docs.aspx; ComponentLink4Description: Actel.com Home; ComponentLink4URL: http://www.actel.com/
footprint VQ100_N (Thin QFP, 100-Leads, Body 14x14mm, Pitch 0.5mm, IPC Medium Density)
footprint VQ100_L (Thin QFP, 100-Leads, Body 14x14mm, Pitch 0.5mm, IPC High Density)
footprint VQ100_M (Thin QFP, 100-Leads, Body 14x14mm, Pitch 0.5mm, IPC Low Density)
signal-integrity model AGLN125-VQ100 (IGLOO nano)
part A pins: 57 GDA1/IO65RSB0 (io), 58 GDC0/IO62RSB0 (io), 59 GDC1/IO61RSB0 (io), 60 GCC2/IO59RSB0 (io), 61 GCB2/IO58RSB0 (io), 62 GCA0/IO56RSB0 (io), 63 GCA1/IO55RSB0 (io), 64 GCC0/IO52RSB0 (io), 65 GCC1/IO51RSB0 (io), 69 IO47RSB0 (io), 70 GBC2/IO45RSB0 (io), 71 GBB2/IO43RSB0 (io), 72 IO42RSB0 (io), 73 GBA2/IO41RSB0 (io), 76 GBA1/IO40RSB0 (io), 77 GBA0/IO39RSB0 (io), 78 GBB1/IO38RSB0 (io), 79 GBB0/IO37RSB0 (io), 80 GBC1/IO36RSB0 (io), 81 GBC0/IO35RSB0 (io), 82 IO32RSB0 (io), 83 IO28RSB0 (io), 84 IO25RSB0 (io), 85 IO22RSB0 (io), 86 IO19RSB0 (io), 90 IO15RSB0 (io), 91 IO13RSB0 (io), 92 IO11RSB0 (io), 93 IO09RSB0 (io), 94 IO07RSB0 (io), 95 GAC1/IO05RSB0 (io), 96 GAC0/IO04RSB0 (io), 97 GAB1/IO03RSB0 (io), 98 GAB0/IO02RSB0 (io), 99 GAA1/IO01RSB0 (io), 100 GAA0/IO00RSB0 (io)
part B pins: 2 GAA2/IO67RSB1 (io), 3 IO68RSB1 (io), 4 GAB2/IO69RSB1 (io), 5 IO132RSB1 (io), 6 GAC2/IO131RSB1 (io), 7 IO130RSB1 (io), 8 IO129RSB1 (io), 10 GFB1/IO124RSB1 (io), 11 GFB0/IO123RSB1 (io), 13 GFA0/IO122RSB1 (io), 15 GFA1/IO121RSB1 (io), 16 GFA2/IO120RSB1 (io), 19 GEC0/IO111RSB1 (io), 20 GEB1/IO110RSB1 (io), 21 GEB0/IO109RSB1 (io), 22 GEA1/IO108RSB1 (io), 23 GEA0/IO107RSB1 (io), 26 GEA2/IO106RSB1 (io), 27 FF/GEB2/IO105RSB1 (io), 28 GEC2/IO104RSB1 (io), 29 IO102RSB1 (io), 30 IO100RSB1 (io), 31 IO99RSB1 (io), 32 IO97RSB1 (io), 33 IO96RSB1 (io), 34 IO95RSB1 (io), 35 IO94RSB1 (io), 36 IO93RSB1 (io), 40 IO87RSB1 (io), 41 IO84RSB1 (io), 42 IO81RSB1 (io), 43 IO75RSB1 (io), 44 GDC2/IO72RSB1 (io), 45 GDB2/IO71RSB1 (io), 46 GDA2/IO70RSB1 (io)
part C pins: 47 TCK (in), 48 TDI (in), 49 TMS (in), 53 NC, 54 TDO (out), 55 TRST (in)
part D pins: 17 VCC (power), 18 VCCIB1 (power), 24 VMV1 (power), 37 VCC (power), 39 VCCIB1 (power), 50 VMV1 (power), 52 VPUMP (power), 56 VJTAG (power), 66 VCCIB0 (power), 68 VCC (power), 74 VMV0 (power), 87 VCCIB0 (power), 89 VCC (power)
part E pins: 1 GND (power), 9 GND (power), 25 GNDQ (power), 38 GND (power), 51 GND (power), 67 GND (power), 75 GNDQ (power), 88 GND (power)
part F pins: 12 VCOMPLF (power), 14 VCCPLF (power)
part A text: BANK 0
part B text: BANK 1

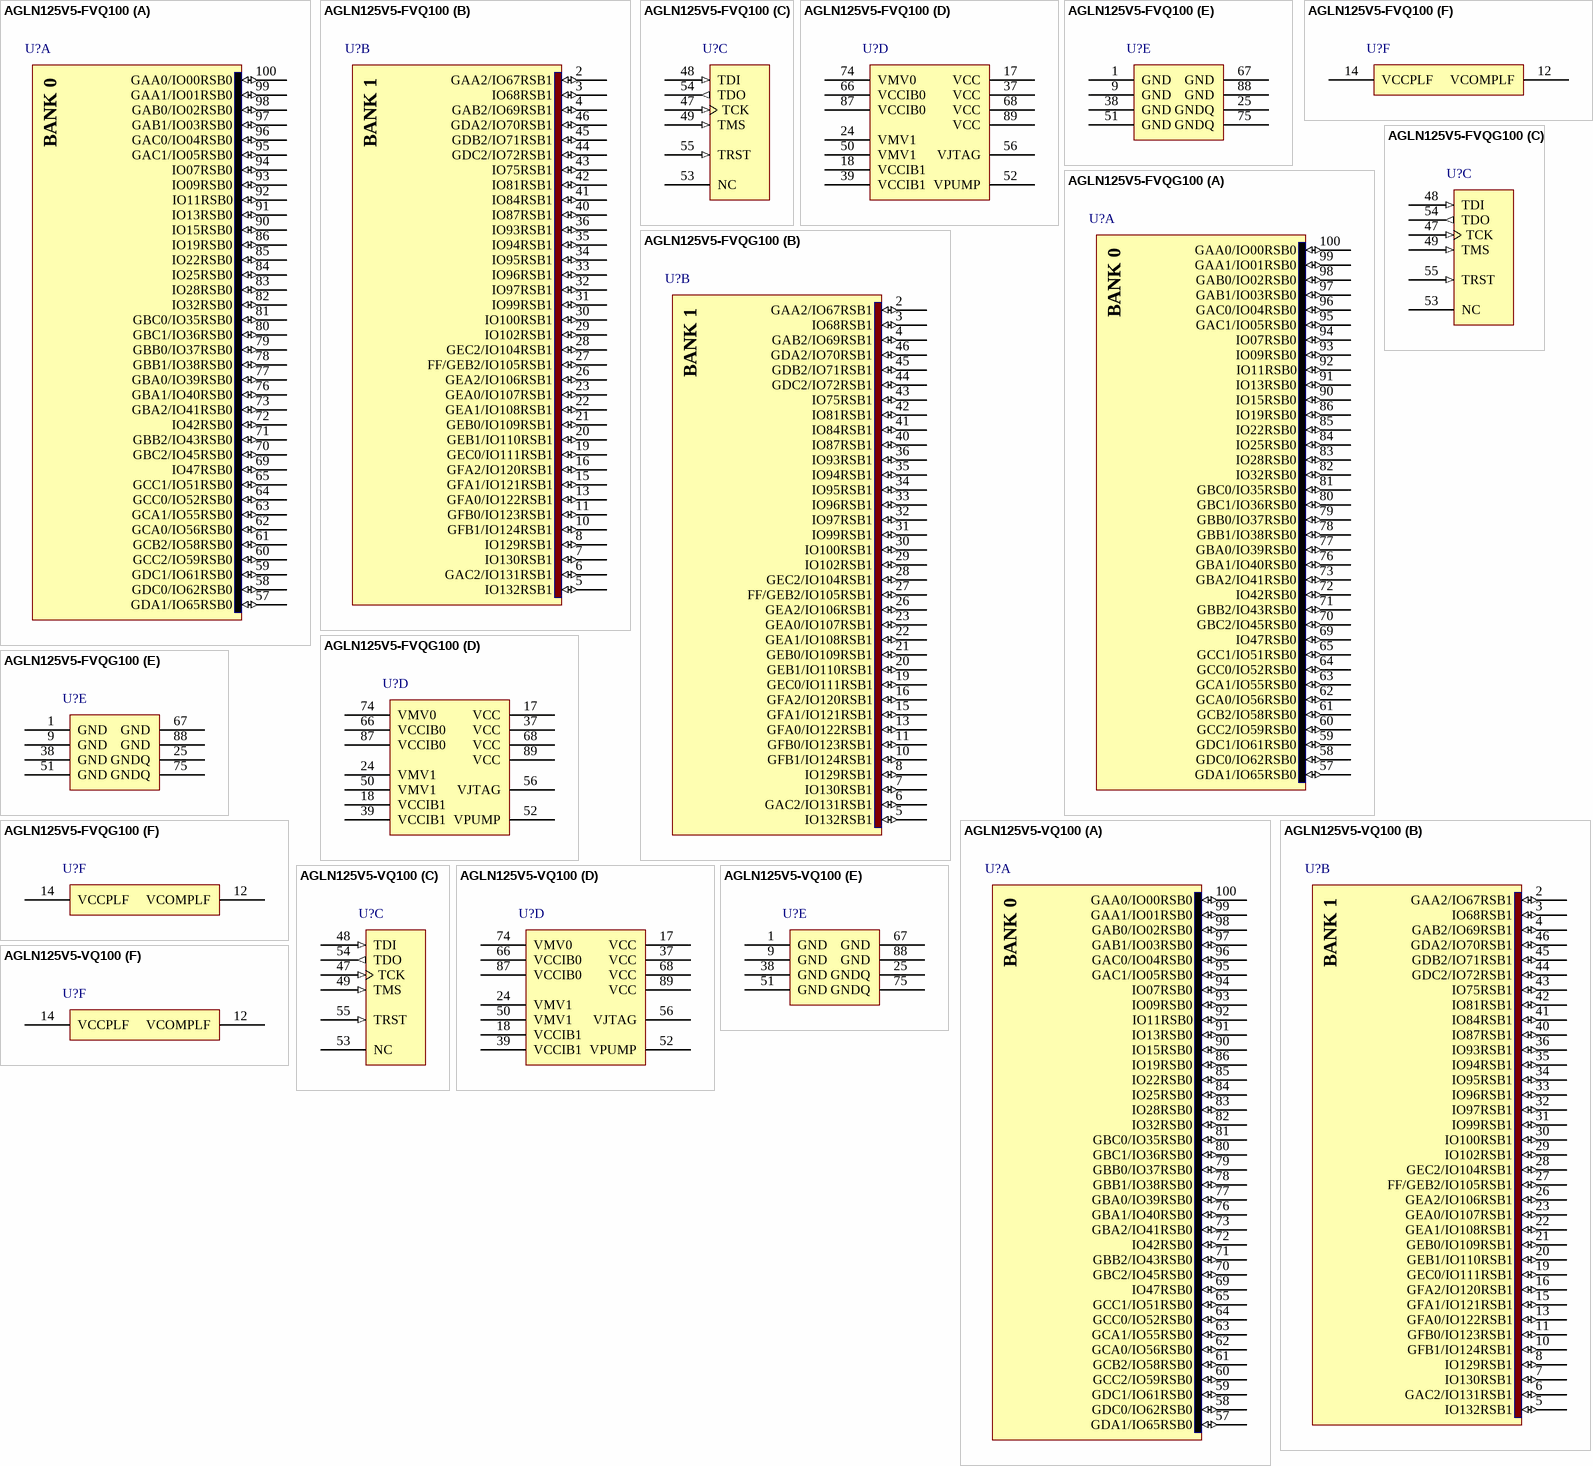
[diagram p44: symbols AGLN125V5-FVQ100 to AGLN125V5-VQ100]

## AGLN125V5-FVQ100
designator U?
IGLOO nano Low-Power Flash 1.5V FPGA with Flash*Freeze, 71 User IOs, 125K System Gates, 1Kbit Flash ROM, 100-Pin TQFP, F Speed Grade, Commercial Grade; ComponentAvailability: F speed grade removed in ver0.7, Apr-2009 datasheet.; Published: 29-May-2009; DatasheetVersion: v0.6, Feb-2009; PackageVersion: ver11.2, Nov-2009; PackageReference: VQ100; Publisher: Altium Limited; PackageDescription: 100-Pin Plastic Quad Flat Pack (VQ100); Code_JEDEC: MS-026-AED; ComponentLink1Description: IGLOO nano Datasheet; ComponentLink1URL: http://www.actel.com/documents/IGLOO_nano_DS.pdf; ComponentLink2Description: Package Mechanical Drawings; ComponentLink2URL: http://www.actel.com/documents/PckgMechDrwngs.pdf; ComponentLink3Description: IGLOO nano Documents; ComponentLink3URL: http://www.actel.com/products/igloonano/docs.aspx; ComponentLink4Description: Actel.com Home; ComponentLink4URL: http://www.actel.com/
footprint VQ100_N (Thin QFP, 100-Leads, Body 14x14mm, Pitch 0.5mm, IPC Medium Density)
footprint VQ100_L (Thin QFP, 100-Leads, Body 14x14mm, Pitch 0.5mm, IPC High Density)
footprint VQ100_M (Thin QFP, 100-Leads, Body 14x14mm, Pitch 0.5mm, IPC Low Density)
signal-integrity model AGLN125-VQ100 (IGLOO nano)
part A pins: 57 GDA1/IO65RSB0 (io), 58 GDC0/IO62RSB0 (io), 59 GDC1/IO61RSB0 (io), 60 GCC2/IO59RSB0 (io), 61 GCB2/IO58RSB0 (io), 62 GCA0/IO56RSB0 (io), 63 GCA1/IO55RSB0 (io), 64 GCC0/IO52RSB0 (io), 65 GCC1/IO51RSB0 (io), 69 IO47RSB0 (io), 70 GBC2/IO45RSB0 (io), 71 GBB2/IO43RSB0 (io), 72 IO42RSB0 (io), 73 GBA2/IO41RSB0 (io), 76 GBA1/IO40RSB0 (io), 77 GBA0/IO39RSB0 (io), 78 GBB1/IO38RSB0 (io), 79 GBB0/IO37RSB0 (io), 80 GBC1/IO36RSB0 (io), 81 GBC0/IO35RSB0 (io), 82 IO32RSB0 (io), 83 IO28RSB0 (io), 84 IO25RSB0 (io), 85 IO22RSB0 (io), 86 IO19RSB0 (io), 90 IO15RSB0 (io), 91 IO13RSB0 (io), 92 IO11RSB0 (io), 93 IO09RSB0 (io), 94 IO07RSB0 (io), 95 GAC1/IO05RSB0 (io), 96 GAC0/IO04RSB0 (io), 97 GAB1/IO03RSB0 (io), 98 GAB0/IO02RSB0 (io), 99 GAA1/IO01RSB0 (io), 100 GAA0/IO00RSB0 (io)
part B pins: 2 GAA2/IO67RSB1 (io), 3 IO68RSB1 (io), 4 GAB2/IO69RSB1 (io), 5 IO132RSB1 (io), 6 GAC2/IO131RSB1 (io), 7 IO130RSB1 (io), 8 IO129RSB1 (io), 10 GFB1/IO124RSB1 (io), 11 GFB0/IO123RSB1 (io), 13 GFA0/IO122RSB1 (io), 15 GFA1/IO121RSB1 (io), 16 GFA2/IO120RSB1 (io), 19 GEC0/IO111RSB1 (io), 20 GEB1/IO110RSB1 (io), 21 GEB0/IO109RSB1 (io), 22 GEA1/IO108RSB1 (io), 23 GEA0/IO107RSB1 (io), 26 GEA2/IO106RSB1 (io), 27 FF/GEB2/IO105RSB1 (io), 28 GEC2/IO104RSB1 (io), 29 IO102RSB1 (io), 30 IO100RSB1 (io), 31 IO99RSB1 (io), 32 IO97RSB1 (io), 33 IO96RSB1 (io), 34 IO95RSB1 (io), 35 IO94RSB1 (io), 36 IO93RSB1 (io), 40 IO87RSB1 (io), 41 IO84RSB1 (io), 42 IO81RSB1 (io), 43 IO75RSB1 (io), 44 GDC2/IO72RSB1 (io), 45 GDB2/IO71RSB1 (io), 46 GDA2/IO70RSB1 (io)
part C pins: 47 TCK (in), 48 TDI (in), 49 TMS (in), 53 NC, 54 TDO (out), 55 TRST (in)
part D pins: 17 VCC (power), 18 VCCIB1 (power), 24 VMV1 (power), 37 VCC (power), 39 VCCIB1 (power), 50 VMV1 (power), 52 VPUMP (power), 56 VJTAG (power), 66 VCCIB0 (power), 68 VCC (power), 74 VMV0 (power), 87 VCCIB0 (power), 89 VCC (power)
part E pins: 1 GND (power), 9 GND (power), 25 GNDQ (power), 38 GND (power), 51 GND (power), 67 GND (power), 75 GNDQ (power), 88 GND (power)
part F pins: 12 VCOMPLF (power), 14 VCCPLF (power)
part A text: BANK 0
part B text: BANK 1

## AGLN125V5-FVQG100
designator U?
IGLOO nano Low-Power Flash 1.5V FPGA with Flash*Freeze, 71 User IOs, 125K System Gates, 1Kbit Flash ROM, 100-Pin TQFP, F Speed Grade, Commercial Grade, Pb-Free; ComponentAvailability: F speed grade removed in ver0.7, Apr-2009 datasheet.; Published: 29-May-2009; DatasheetVersion: v0.6, Feb-2009; PackageVersion: ver11.2, Nov-2009; PackageReference: VQ100; Publisher: Altium Limited; PackageDescription: 100-Pin Plastic Quad Flat Pack (VQ100); Code_JEDEC: MS-026-AED; ComponentLink1Description: IGLOO nano Datasheet; ComponentLink1URL: http://www.actel.com/documents/IGLOO_nano_DS.pdf; ComponentLink2Description: Package Mechanical Drawings; ComponentLink2URL: http://www.actel.com/documents/PckgMechDrwngs.pdf; ComponentLink3Description: IGLOO nano Documents; ComponentLink3URL: http://www.actel.com/products/igloonano/docs.aspx; ComponentLink4Description: Actel.com Home; ComponentLink4URL: http://www.actel.com/
footprint VQ100_N (Thin QFP, 100-Leads, Body 14x14mm, Pitch 0.5mm, IPC Medium Density)
footprint VQ100_L (Thin QFP, 100-Leads, Body 14x14mm, Pitch 0.5mm, IPC High Density)
footprint VQ100_M (Thin QFP, 100-Leads, Body 14x14mm, Pitch 0.5mm, IPC Low Density)
signal-integrity model AGLN125-VQ100 (IGLOO nano)
part A pins: 57 GDA1/IO65RSB0 (io), 58 GDC0/IO62RSB0 (io), 59 GDC1/IO61RSB0 (io), 60 GCC2/IO59RSB0 (io), 61 GCB2/IO58RSB0 (io), 62 GCA0/IO56RSB0 (io), 63 GCA1/IO55RSB0 (io), 64 GCC0/IO52RSB0 (io), 65 GCC1/IO51RSB0 (io), 69 IO47RSB0 (io), 70 GBC2/IO45RSB0 (io), 71 GBB2/IO43RSB0 (io), 72 IO42RSB0 (io), 73 GBA2/IO41RSB0 (io), 76 GBA1/IO40RSB0 (io), 77 GBA0/IO39RSB0 (io), 78 GBB1/IO38RSB0 (io), 79 GBB0/IO37RSB0 (io), 80 GBC1/IO36RSB0 (io), 81 GBC0/IO35RSB0 (io), 82 IO32RSB0 (io), 83 IO28RSB0 (io), 84 IO25RSB0 (io), 85 IO22RSB0 (io), 86 IO19RSB0 (io), 90 IO15RSB0 (io), 91 IO13RSB0 (io), 92 IO11RSB0 (io), 93 IO09RSB0 (io), 94 IO07RSB0 (io), 95 GAC1/IO05RSB0 (io), 96 GAC0/IO04RSB0 (io), 97 GAB1/IO03RSB0 (io), 98 GAB0/IO02RSB0 (io), 99 GAA1/IO01RSB0 (io), 100 GAA0/IO00RSB0 (io)
part B pins: 2 GAA2/IO67RSB1 (io), 3 IO68RSB1 (io), 4 GAB2/IO69RSB1 (io), 5 IO132RSB1 (io), 6 GAC2/IO131RSB1 (io), 7 IO130RSB1 (io), 8 IO129RSB1 (io), 10 GFB1/IO124RSB1 (io), 11 GFB0/IO123RSB1 (io), 13 GFA0/IO122RSB1 (io), 15 GFA1/IO121RSB1 (io), 16 GFA2/IO120RSB1 (io), 19 GEC0/IO111RSB1 (io), 20 GEB1/IO110RSB1 (io), 21 GEB0/IO109RSB1 (io), 22 GEA1/IO108RSB1 (io), 23 GEA0/IO107RSB1 (io), 26 GEA2/IO106RSB1 (io), 27 FF/GEB2/IO105RSB1 (io), 28 GEC2/IO104RSB1 (io), 29 IO102RSB1 (io), 30 IO100RSB1 (io), 31 IO99RSB1 (io), 32 IO97RSB1 (io), 33 IO96RSB1 (io), 34 IO95RSB1 (io), 35 IO94RSB1 (io), 36 IO93RSB1 (io), 40 IO87RSB1 (io), 41 IO84RSB1 (io), 42 IO81RSB1 (io), 43 IO75RSB1 (io), 44 GDC2/IO72RSB1 (io), 45 GDB2/IO71RSB1 (io), 46 GDA2/IO70RSB1 (io)
part C pins: 47 TCK (in), 48 TDI (in), 49 TMS (in), 53 NC, 54 TDO (out), 55 TRST (in)
part D pins: 17 VCC (power), 18 VCCIB1 (power), 24 VMV1 (power), 37 VCC (power), 39 VCCIB1 (power), 50 VMV1 (power), 52 VPUMP (power), 56 VJTAG (power), 66 VCCIB0 (power), 68 VCC (power), 74 VMV0 (power), 87 VCCIB0 (power), 89 VCC (power)
part E pins: 1 GND (power), 9 GND (power), 25 GNDQ (power), 38 GND (power), 51 GND (power), 67 GND (power), 75 GNDQ (power), 88 GND (power)
part F pins: 12 VCOMPLF (power), 14 VCCPLF (power)
part A text: BANK 0
part B text: BANK 1

## AGLN125V5-VQ100
designator U?
IGLOO nano Low-Power Flash 1.5V FPGA with Flash*Freeze, 71 User IOs, 125K System Gates, 1Kbit Flash ROM, 100-Pin TQFP, Commercial Grade; Published: 29-May-2009; LatestRevisionDate: 26-Feb-2010; LatestRevisionNote: Updated to datasheet version 0.8 Jan-2010.; DatasheetVersion: v0.8, Jan-2010; PackageVersion: ver11.2, Nov-2009; PackageReference: VQ100; Publisher: Altium Limited; PackageDescription: 100-Pin Plastic Quad Flat Pack (VQ100); Code_JEDEC: MS-026-AED; ComponentLink1Description: IGLOO nano Datasheet; ComponentLink1URL: http://www.actel.com/documents/IGLOO_nano_DS.pdf; ComponentLink2Description: Package Mechanical Drawings; ComponentLink2URL: http://www.actel.com/documents/PckgMechDrwngs.pdf; ComponentLink3Description: IGLOO nano Documents; ComponentLink3URL: http://www.actel.com/products/igloonano/docs.aspx; ComponentLink4Description: Actel.com Home; ComponentLink4URL: http://www.actel.com/
footprint VQ100_N (Thin QFP, 100-Leads, Body 14x14mm, Pitch 0.5mm, IPC Medium Density)
footprint VQ100_L (Thin QFP, 100-Leads, Body 14x14mm, Pitch 0.5mm, IPC High Density)
footprint VQ100_M (Thin QFP, 100-Leads, Body 14x14mm, Pitch 0.5mm, IPC Low Density)
signal-integrity model AGLN125-VQ100 (IGLOO nano)
part A pins: 57 GDA1/IO65RSB0 (io), 58 GDC0/IO62RSB0 (io), 59 GDC1/IO61RSB0 (io), 60 GCC2/IO59RSB0 (io), 61 GCB2/IO58RSB0 (io), 62 GCA0/IO56RSB0 (io), 63 GCA1/IO55RSB0 (io), 64 GCC0/IO52RSB0 (io), 65 GCC1/IO51RSB0 (io), 69 IO47RSB0 (io), 70 GBC2/IO45RSB0 (io), 71 GBB2/IO43RSB0 (io), 72 IO42RSB0 (io), 73 GBA2/IO41RSB0 (io), 76 GBA1/IO40RSB0 (io), 77 GBA0/IO39RSB0 (io), 78 GBB1/IO38RSB0 (io), 79 GBB0/IO37RSB0 (io), 80 GBC1/IO36RSB0 (io), 81 GBC0/IO35RSB0 (io), 82 IO32RSB0 (io), 83 IO28RSB0 (io), 84 IO25RSB0 (io), 85 IO22RSB0 (io), 86 IO19RSB0 (io), 90 IO15RSB0 (io), 91 IO13RSB0 (io), 92 IO11RSB0 (io), 93 IO09RSB0 (io), 94 IO07RSB0 (io), 95 GAC1/IO05RSB0 (io), 96 GAC0/IO04RSB0 (io), 97 GAB1/IO03RSB0 (io), 98 GAB0/IO02RSB0 (io), 99 GAA1/IO01RSB0 (io), 100 GAA0/IO00RSB0 (io)
part B pins: 2 GAA2/IO67RSB1 (io), 3 IO68RSB1 (io), 4 GAB2/IO69RSB1 (io), 5 IO132RSB1 (io), 6 GAC2/IO131RSB1 (io), 7 IO130RSB1 (io), 8 IO129RSB1 (io), 10 GFB1/IO124RSB1 (io), 11 GFB0/IO123RSB1 (io), 13 GFA0/IO122RSB1 (io), 15 GFA1/IO121RSB1 (io), 16 GFA2/IO120RSB1 (io), 19 GEC0/IO111RSB1 (io), 20 GEB1/IO110RSB1 (io), 21 GEB0/IO109RSB1 (io), 22 GEA1/IO108RSB1 (io), 23 GEA0/IO107RSB1 (io), 26 GEA2/IO106RSB1 (io), 27 FF/GEB2/IO105RSB1 (io), 28 GEC2/IO104RSB1 (io), 29 IO102RSB1 (io), 30 IO100RSB1 (io), 31 IO99RSB1 (io), 32 IO97RSB1 (io), 33 IO96RSB1 (io), 34 IO95RSB1 (io), 35 IO94RSB1 (io), 36 IO93RSB1 (io), 40 IO87RSB1 (io), 41 IO84RSB1 (io), 42 IO81RSB1 (io), 43 IO75RSB1 (io), 44 GDC2/IO72RSB1 (io), 45 GDB2/IO71RSB1 (io), 46 GDA2/IO70RSB1 (io)
part C pins: 47 TCK (in), 48 TDI (in), 49 TMS (in), 53 NC, 54 TDO (out), 55 TRST (in)
part D pins: 17 VCC (power), 18 VCCIB1 (power), 24 VMV1 (power), 37 VCC (power), 39 VCCIB1 (power), 50 VMV1 (power), 52 VPUMP (power), 56 VJTAG (power), 66 VCCIB0 (power), 68 VCC (power), 74 VMV0 (power), 87 VCCIB0 (power), 89 VCC (power)
part E pins: 1 GND (power), 9 GND (power), 25 GNDQ (power), 38 GND (power), 51 GND (power), 67 GND (power), 75 GNDQ (power), 88 GND (power)
part F pins: 12 VCOMPLF (power), 14 VCCPLF (power)
part A text: BANK 0
part B text: BANK 1

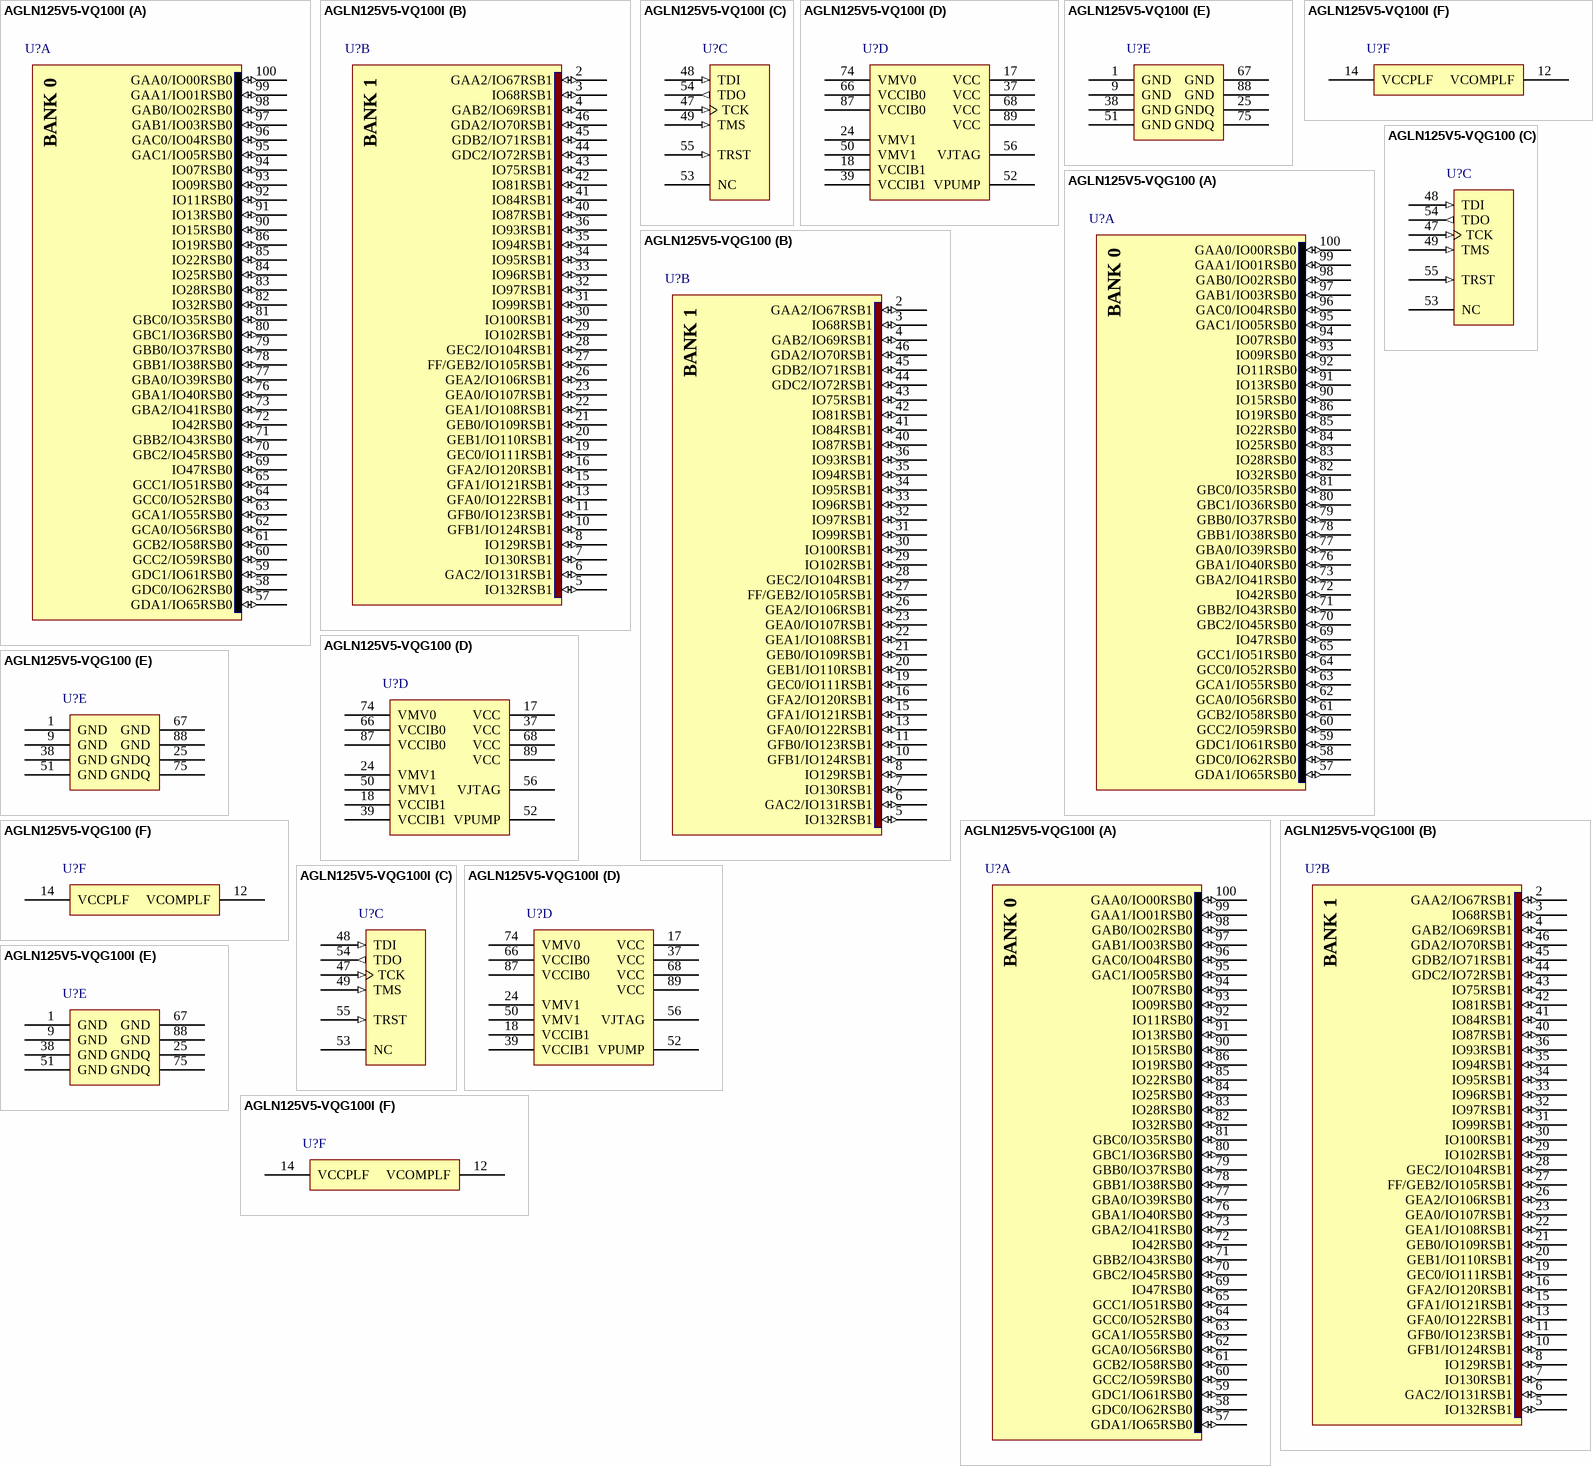
[diagram p45: symbols AGLN125V5-VQ100I to AGLN125V5-VQG100I]

## AGLN125V5-VQ100I
designator U?
IGLOO nano Low-Power Flash 1.5V FPGA with Flash*Freeze, 71 User IOs, 125K System Gates, 1Kbit Flash ROM, 100-Pin TQFP, Industrial Grade; Published: 29-May-2009; LatestRevisionDate: 26-Feb-2010; LatestRevisionNote: Updated to datasheet version 0.8 Jan-2010.; DatasheetVersion: v0.8, Jan-2010; PackageVersion: ver11.2, Nov-2009; PackageReference: VQ100; Publisher: Altium Limited; PackageDescription: 100-Pin Plastic Quad Flat Pack (VQ100); Code_JEDEC: MS-026-AED; ComponentLink1Description: IGLOO nano Datasheet; ComponentLink1URL: http://www.actel.com/documents/IGLOO_nano_DS.pdf; ComponentLink2Description: Package Mechanical Drawings; ComponentLink2URL: http://www.actel.com/documents/PckgMechDrwngs.pdf; ComponentLink3Description: IGLOO nano Documents; ComponentLink3URL: http://www.actel.com/products/igloonano/docs.aspx; ComponentLink4Description: Actel.com Home; ComponentLink4URL: http://www.actel.com/
footprint VQ100_N (Thin QFP, 100-Leads, Body 14x14mm, Pitch 0.5mm, IPC Medium Density)
footprint VQ100_L (Thin QFP, 100-Leads, Body 14x14mm, Pitch 0.5mm, IPC High Density)
footprint VQ100_M (Thin QFP, 100-Leads, Body 14x14mm, Pitch 0.5mm, IPC Low Density)
signal-integrity model AGLN125-VQ100 (IGLOO nano)
part A pins: 57 GDA1/IO65RSB0 (io), 58 GDC0/IO62RSB0 (io), 59 GDC1/IO61RSB0 (io), 60 GCC2/IO59RSB0 (io), 61 GCB2/IO58RSB0 (io), 62 GCA0/IO56RSB0 (io), 63 GCA1/IO55RSB0 (io), 64 GCC0/IO52RSB0 (io), 65 GCC1/IO51RSB0 (io), 69 IO47RSB0 (io), 70 GBC2/IO45RSB0 (io), 71 GBB2/IO43RSB0 (io), 72 IO42RSB0 (io), 73 GBA2/IO41RSB0 (io), 76 GBA1/IO40RSB0 (io), 77 GBA0/IO39RSB0 (io), 78 GBB1/IO38RSB0 (io), 79 GBB0/IO37RSB0 (io), 80 GBC1/IO36RSB0 (io), 81 GBC0/IO35RSB0 (io), 82 IO32RSB0 (io), 83 IO28RSB0 (io), 84 IO25RSB0 (io), 85 IO22RSB0 (io), 86 IO19RSB0 (io), 90 IO15RSB0 (io), 91 IO13RSB0 (io), 92 IO11RSB0 (io), 93 IO09RSB0 (io), 94 IO07RSB0 (io), 95 GAC1/IO05RSB0 (io), 96 GAC0/IO04RSB0 (io), 97 GAB1/IO03RSB0 (io), 98 GAB0/IO02RSB0 (io), 99 GAA1/IO01RSB0 (io), 100 GAA0/IO00RSB0 (io)
part B pins: 2 GAA2/IO67RSB1 (io), 3 IO68RSB1 (io), 4 GAB2/IO69RSB1 (io), 5 IO132RSB1 (io), 6 GAC2/IO131RSB1 (io), 7 IO130RSB1 (io), 8 IO129RSB1 (io), 10 GFB1/IO124RSB1 (io), 11 GFB0/IO123RSB1 (io), 13 GFA0/IO122RSB1 (io), 15 GFA1/IO121RSB1 (io), 16 GFA2/IO120RSB1 (io), 19 GEC0/IO111RSB1 (io), 20 GEB1/IO110RSB1 (io), 21 GEB0/IO109RSB1 (io), 22 GEA1/IO108RSB1 (io), 23 GEA0/IO107RSB1 (io), 26 GEA2/IO106RSB1 (io), 27 FF/GEB2/IO105RSB1 (io), 28 GEC2/IO104RSB1 (io), 29 IO102RSB1 (io), 30 IO100RSB1 (io), 31 IO99RSB1 (io), 32 IO97RSB1 (io), 33 IO96RSB1 (io), 34 IO95RSB1 (io), 35 IO94RSB1 (io), 36 IO93RSB1 (io), 40 IO87RSB1 (io), 41 IO84RSB1 (io), 42 IO81RSB1 (io), 43 IO75RSB1 (io), 44 GDC2/IO72RSB1 (io), 45 GDB2/IO71RSB1 (io), 46 GDA2/IO70RSB1 (io)
part C pins: 47 TCK (in), 48 TDI (in), 49 TMS (in), 53 NC, 54 TDO (out), 55 TRST (in)
part D pins: 17 VCC (power), 18 VCCIB1 (power), 24 VMV1 (power), 37 VCC (power), 39 VCCIB1 (power), 50 VMV1 (power), 52 VPUMP (power), 56 VJTAG (power), 66 VCCIB0 (power), 68 VCC (power), 74 VMV0 (power), 87 VCCIB0 (power), 89 VCC (power)
part E pins: 1 GND (power), 9 GND (power), 25 GNDQ (power), 38 GND (power), 51 GND (power), 67 GND (power), 75 GNDQ (power), 88 GND (power)
part F pins: 12 VCOMPLF (power), 14 VCCPLF (power)
part A text: BANK 0
part B text: BANK 1

## AGLN125V5-VQG100
designator U?
IGLOO nano Low-Power Flash 1.5V FPGA with Flash*Freeze, 71 User IOs, 125K System Gates, 1Kbit Flash ROM, 100-Pin TQFP, Commercial Grade, Pb-Free; Published: 29-May-2009; LatestRevisionDate: 26-Feb-2010; LatestRevisionNote: Updated to datasheet version 0.8 Jan-2010.; DatasheetVersion: v0.8, Jan-2010; PackageVersion: ver11.2, Nov-2009; PackageReference: VQ100; Publisher: Altium Limited; PackageDescription: 100-Pin Plastic Quad Flat Pack (VQ100); Code_JEDEC: MS-026-AED; ComponentLink1Description: IGLOO nano Datasheet; ComponentLink1URL: http://www.actel.com/documents/IGLOO_nano_DS.pdf; ComponentLink2Description: Package Mechanical Drawings; ComponentLink2URL: http://www.actel.com/documents/PckgMechDrwngs.pdf; ComponentLink3Description: IGLOO nano Documents; ComponentLink3URL: http://www.actel.com/products/igloonano/docs.aspx; ComponentLink4Description: Actel.com Home; ComponentLink4URL: http://www.actel.com/
footprint VQ100_N (Thin QFP, 100-Leads, Body 14x14mm, Pitch 0.5mm, IPC Medium Density)
footprint VQ100_L (Thin QFP, 100-Leads, Body 14x14mm, Pitch 0.5mm, IPC High Density)
footprint VQ100_M (Thin QFP, 100-Leads, Body 14x14mm, Pitch 0.5mm, IPC Low Density)
signal-integrity model AGLN125-VQ100 (IGLOO nano)
part A pins: 57 GDA1/IO65RSB0 (io), 58 GDC0/IO62RSB0 (io), 59 GDC1/IO61RSB0 (io), 60 GCC2/IO59RSB0 (io), 61 GCB2/IO58RSB0 (io), 62 GCA0/IO56RSB0 (io), 63 GCA1/IO55RSB0 (io), 64 GCC0/IO52RSB0 (io), 65 GCC1/IO51RSB0 (io), 69 IO47RSB0 (io), 70 GBC2/IO45RSB0 (io), 71 GBB2/IO43RSB0 (io), 72 IO42RSB0 (io), 73 GBA2/IO41RSB0 (io), 76 GBA1/IO40RSB0 (io), 77 GBA0/IO39RSB0 (io), 78 GBB1/IO38RSB0 (io), 79 GBB0/IO37RSB0 (io), 80 GBC1/IO36RSB0 (io), 81 GBC0/IO35RSB0 (io), 82 IO32RSB0 (io), 83 IO28RSB0 (io), 84 IO25RSB0 (io), 85 IO22RSB0 (io), 86 IO19RSB0 (io), 90 IO15RSB0 (io), 91 IO13RSB0 (io), 92 IO11RSB0 (io), 93 IO09RSB0 (io), 94 IO07RSB0 (io), 95 GAC1/IO05RSB0 (io), 96 GAC0/IO04RSB0 (io), 97 GAB1/IO03RSB0 (io), 98 GAB0/IO02RSB0 (io), 99 GAA1/IO01RSB0 (io), 100 GAA0/IO00RSB0 (io)
part B pins: 2 GAA2/IO67RSB1 (io), 3 IO68RSB1 (io), 4 GAB2/IO69RSB1 (io), 5 IO132RSB1 (io), 6 GAC2/IO131RSB1 (io), 7 IO130RSB1 (io), 8 IO129RSB1 (io), 10 GFB1/IO124RSB1 (io), 11 GFB0/IO123RSB1 (io), 13 GFA0/IO122RSB1 (io), 15 GFA1/IO121RSB1 (io), 16 GFA2/IO120RSB1 (io), 19 GEC0/IO111RSB1 (io), 20 GEB1/IO110RSB1 (io), 21 GEB0/IO109RSB1 (io), 22 GEA1/IO108RSB1 (io), 23 GEA0/IO107RSB1 (io), 26 GEA2/IO106RSB1 (io), 27 FF/GEB2/IO105RSB1 (io), 28 GEC2/IO104RSB1 (io), 29 IO102RSB1 (io), 30 IO100RSB1 (io), 31 IO99RSB1 (io), 32 IO97RSB1 (io), 33 IO96RSB1 (io), 34 IO95RSB1 (io), 35 IO94RSB1 (io), 36 IO93RSB1 (io), 40 IO87RSB1 (io), 41 IO84RSB1 (io), 42 IO81RSB1 (io), 43 IO75RSB1 (io), 44 GDC2/IO72RSB1 (io), 45 GDB2/IO71RSB1 (io), 46 GDA2/IO70RSB1 (io)
part C pins: 47 TCK (in), 48 TDI (in), 49 TMS (in), 53 NC, 54 TDO (out), 55 TRST (in)
part D pins: 17 VCC (power), 18 VCCIB1 (power), 24 VMV1 (power), 37 VCC (power), 39 VCCIB1 (power), 50 VMV1 (power), 52 VPUMP (power), 56 VJTAG (power), 66 VCCIB0 (power), 68 VCC (power), 74 VMV0 (power), 87 VCCIB0 (power), 89 VCC (power)
part E pins: 1 GND (power), 9 GND (power), 25 GNDQ (power), 38 GND (power), 51 GND (power), 67 GND (power), 75 GNDQ (power), 88 GND (power)
part F pins: 12 VCOMPLF (power), 14 VCCPLF (power)
part A text: BANK 0
part B text: BANK 1

## AGLN125V5-VQG100I
designator U?
IGLOO nano Low-Power Flash 1.5V FPGA with Flash*Freeze, 71 User IOs, 125K System Gates, 1Kbit Flash ROM, 100-Pin TQFP, Industrial Grade, Pb-Free; Published: 29-May-2009; LatestRevisionDate: 26-Feb-2010; LatestRevisionNote: Updated to datasheet version 0.8 Jan-2010.; DatasheetVersion: v0.8, Jan-2010; PackageVersion: ver11.2, Nov-2009; PackageReference: VQ100; Publisher: Altium Limited; PackageDescription: 100-Pin Plastic Quad Flat Pack (VQ100); Code_JEDEC: MS-026-AED; ComponentLink1Description: IGLOO nano Datasheet; ComponentLink1URL: http://www.actel.com/documents/IGLOO_nano_DS.pdf; ComponentLink2Description: Package Mechanical Drawings; ComponentLink2URL: http://www.actel.com/documents/PckgMechDrwngs.pdf; ComponentLink3Description: IGLOO nano Documents; ComponentLink3URL: http://www.actel.com/products/igloonano/docs.aspx; ComponentLink4Description: Actel.com Home; ComponentLink4URL: http://www.actel.com/
footprint VQ100_N (Thin QFP, 100-Leads, Body 14x14mm, Pitch 0.5mm, IPC Medium Density)
footprint VQ100_L (Thin QFP, 100-Leads, Body 14x14mm, Pitch 0.5mm, IPC High Density)
footprint VQ100_M (Thin QFP, 100-Leads, Body 14x14mm, Pitch 0.5mm, IPC Low Density)
signal-integrity model AGLN125-VQ100 (IGLOO nano)
part A pins: 57 GDA1/IO65RSB0 (io), 58 GDC0/IO62RSB0 (io), 59 GDC1/IO61RSB0 (io), 60 GCC2/IO59RSB0 (io), 61 GCB2/IO58RSB0 (io), 62 GCA0/IO56RSB0 (io), 63 GCA1/IO55RSB0 (io), 64 GCC0/IO52RSB0 (io), 65 GCC1/IO51RSB0 (io), 69 IO47RSB0 (io), 70 GBC2/IO45RSB0 (io), 71 GBB2/IO43RSB0 (io), 72 IO42RSB0 (io), 73 GBA2/IO41RSB0 (io), 76 GBA1/IO40RSB0 (io), 77 GBA0/IO39RSB0 (io), 78 GBB1/IO38RSB0 (io), 79 GBB0/IO37RSB0 (io), 80 GBC1/IO36RSB0 (io), 81 GBC0/IO35RSB0 (io), 82 IO32RSB0 (io), 83 IO28RSB0 (io), 84 IO25RSB0 (io), 85 IO22RSB0 (io), 86 IO19RSB0 (io), 90 IO15RSB0 (io), 91 IO13RSB0 (io), 92 IO11RSB0 (io), 93 IO09RSB0 (io), 94 IO07RSB0 (io), 95 GAC1/IO05RSB0 (io), 96 GAC0/IO04RSB0 (io), 97 GAB1/IO03RSB0 (io), 98 GAB0/IO02RSB0 (io), 99 GAA1/IO01RSB0 (io), 100 GAA0/IO00RSB0 (io)
part B pins: 2 GAA2/IO67RSB1 (io), 3 IO68RSB1 (io), 4 GAB2/IO69RSB1 (io), 5 IO132RSB1 (io), 6 GAC2/IO131RSB1 (io), 7 IO130RSB1 (io), 8 IO129RSB1 (io), 10 GFB1/IO124RSB1 (io), 11 GFB0/IO123RSB1 (io), 13 GFA0/IO122RSB1 (io), 15 GFA1/IO121RSB1 (io), 16 GFA2/IO120RSB1 (io), 19 GEC0/IO111RSB1 (io), 20 GEB1/IO110RSB1 (io), 21 GEB0/IO109RSB1 (io), 22 GEA1/IO108RSB1 (io), 23 GEA0/IO107RSB1 (io), 26 GEA2/IO106RSB1 (io), 27 FF/GEB2/IO105RSB1 (io), 28 GEC2/IO104RSB1 (io), 29 IO102RSB1 (io), 30 IO100RSB1 (io), 31 IO99RSB1 (io), 32 IO97RSB1 (io), 33 IO96RSB1 (io), 34 IO95RSB1 (io), 35 IO94RSB1 (io), 36 IO93RSB1 (io), 40 IO87RSB1 (io), 41 IO84RSB1 (io), 42 IO81RSB1 (io), 43 IO75RSB1 (io), 44 GDC2/IO72RSB1 (io), 45 GDB2/IO71RSB1 (io), 46 GDA2/IO70RSB1 (io)
part C pins: 47 TCK (in), 48 TDI (in), 49 TMS (in), 53 NC, 54 TDO (out), 55 TRST (in)
part D pins: 17 VCC (power), 18 VCCIB1 (power), 24 VMV1 (power), 37 VCC (power), 39 VCCIB1 (power), 50 VMV1 (power), 52 VPUMP (power), 56 VJTAG (power), 66 VCCIB0 (power), 68 VCC (power), 74 VMV0 (power), 87 VCCIB0 (power), 89 VCC (power)
part E pins: 1 GND (power), 9 GND (power), 25 GNDQ (power), 38 GND (power), 51 GND (power), 67 GND (power), 75 GNDQ (power), 88 GND (power)
part F pins: 12 VCOMPLF (power), 14 VCCPLF (power)
part A text: BANK 0
part B text: BANK 1

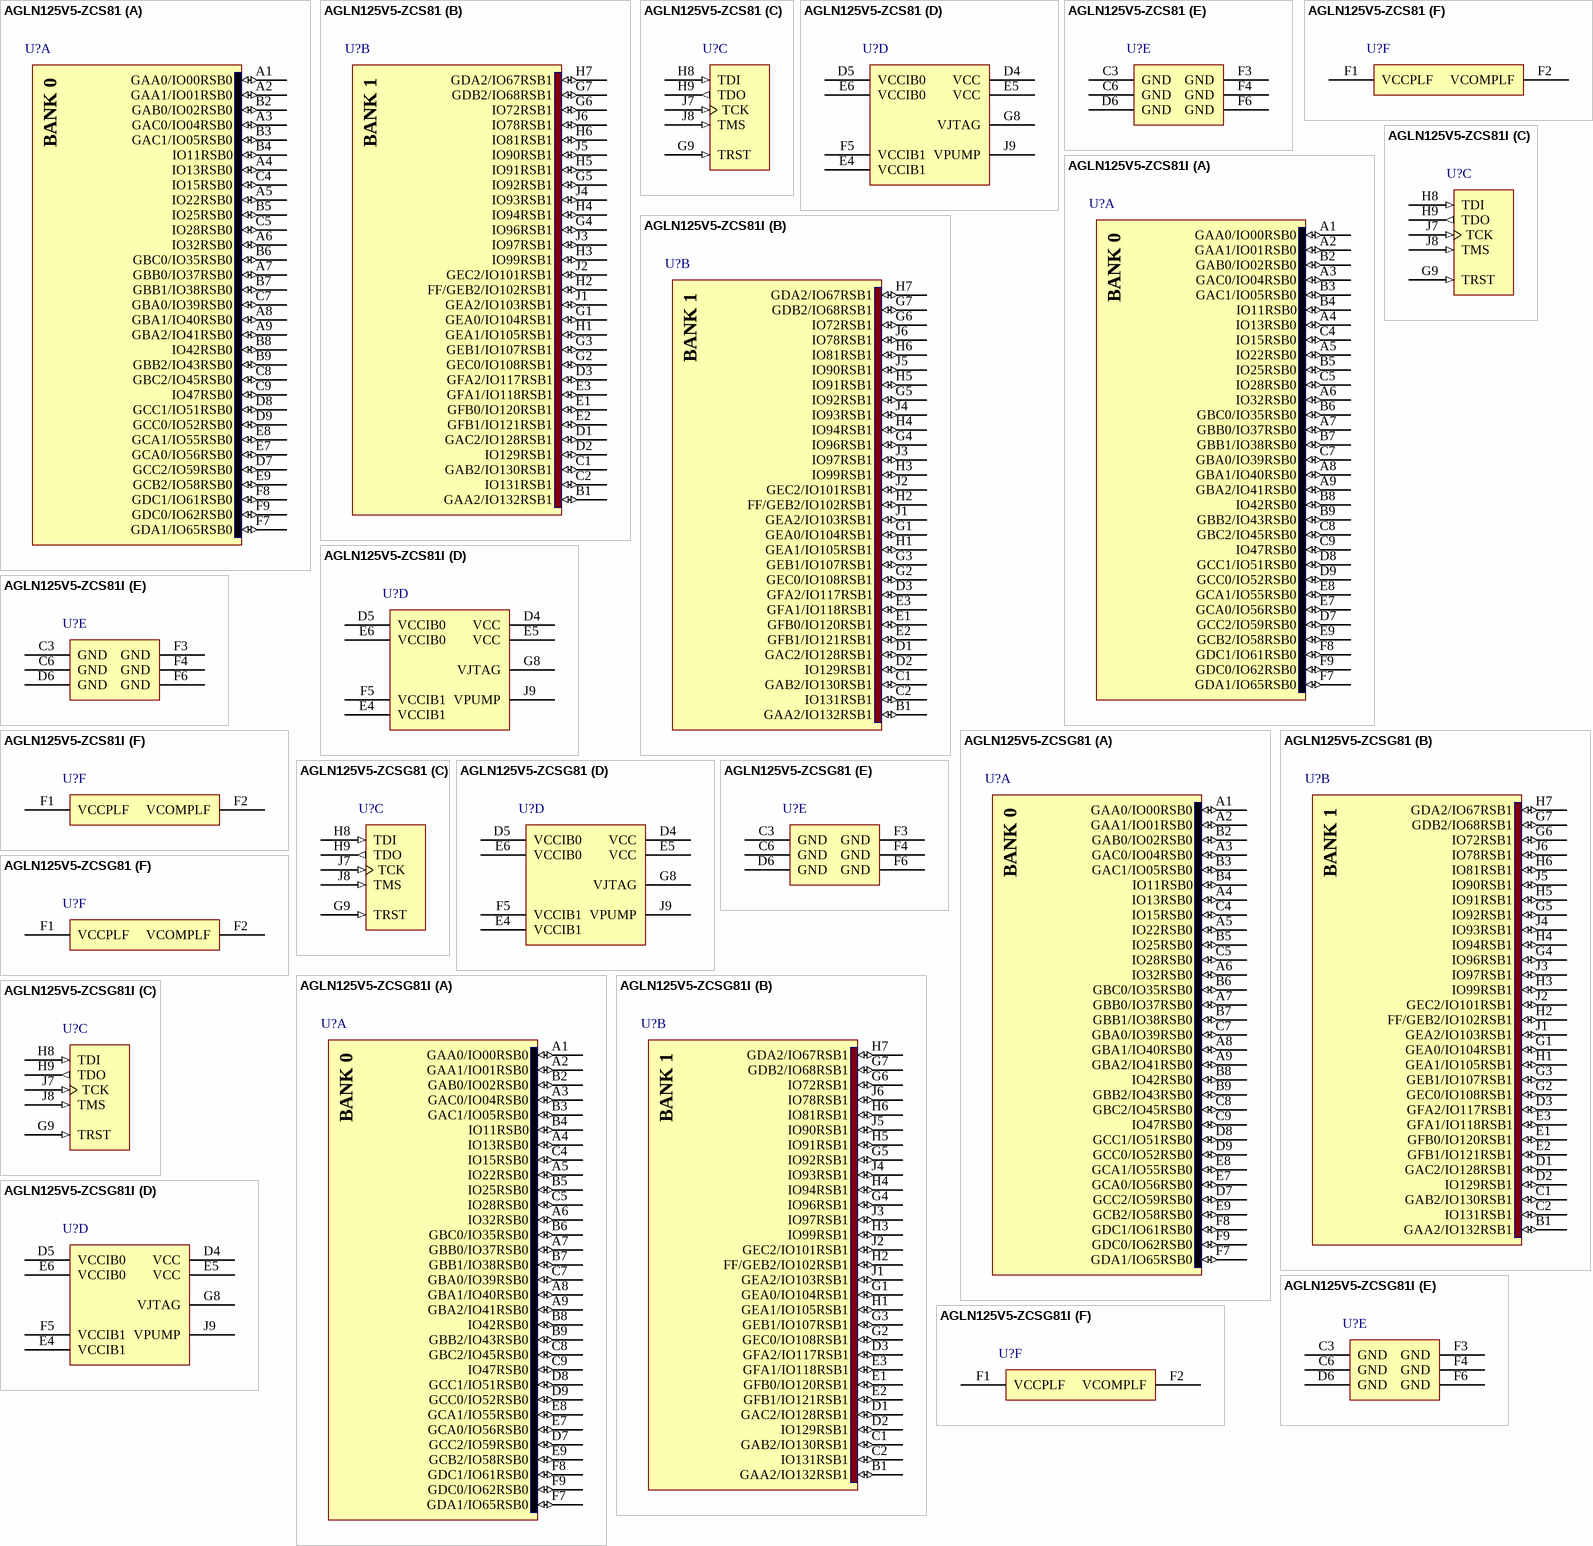
[diagram p46: symbols AGLN125V5-ZCS81 to AGLN125V5-ZCSG81I]